# Altium schematic symbol library mcu_stm32.SchLib: 42 symbols (part 3 of 5)
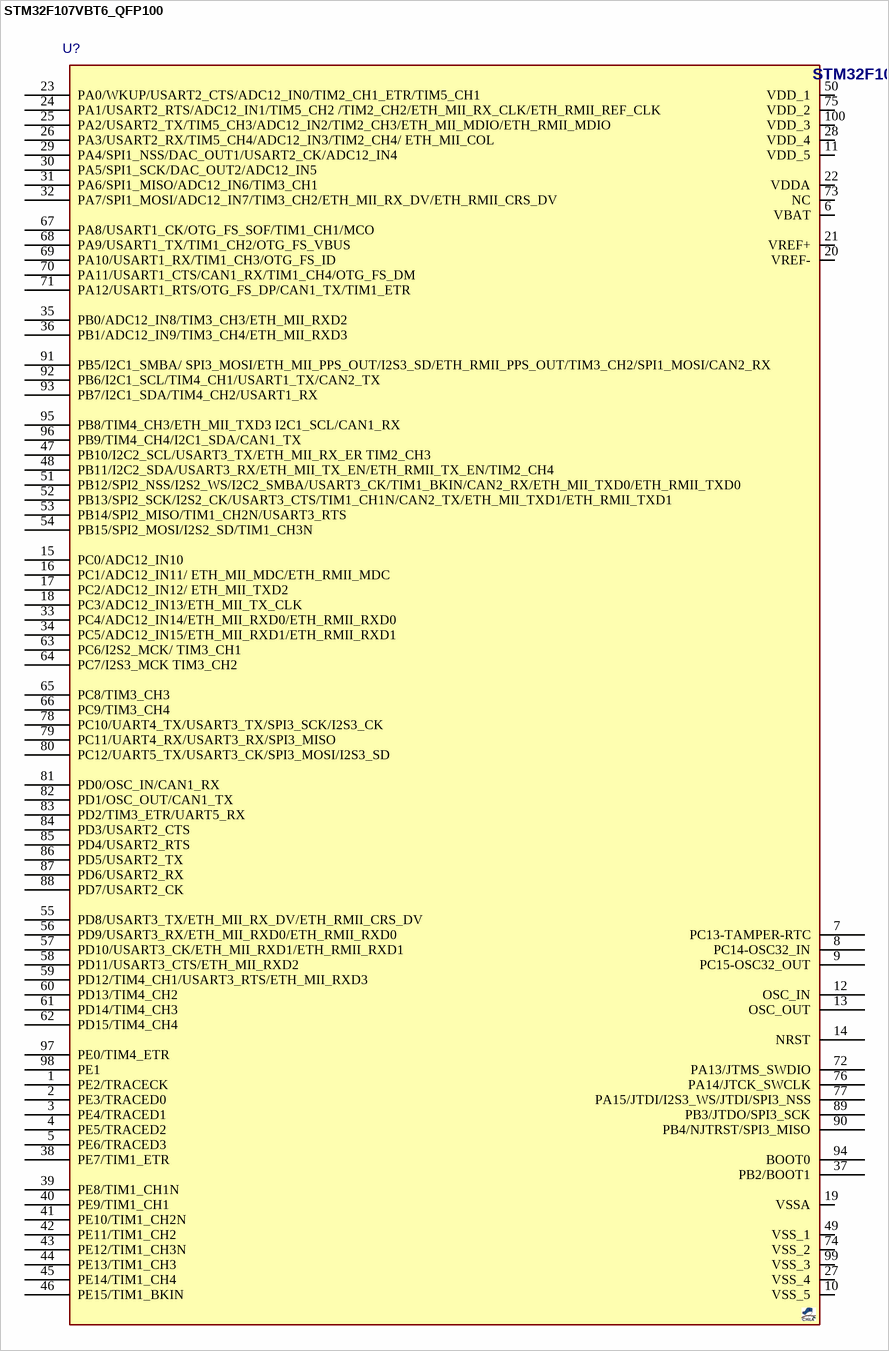
[diagram p31: symbol STM32F107VBT6_QFP100]

## STM32F107VBT6_QFP100
designator U?, comment STM32F107  (value not drawn)
MCU, STM32 ARM 32-bit, Cortex M3, 256KB FLASH, 64KB SRAM; DESC: USB OTG, ETHERNET, 2ADC, DAC, CAN, I2C, SPI, UART; MANF: ST; MANF_P#: STM32F107VBT6; PARAM2: 2~3.6VCC, 72MHz, 2X12Bit ADC, 2X12Bit DAC; PARAM: 256KB FLASH, 64KB SRAM, -40~85oC; PRICE: 9$; VALUE: STM32F107; PACKAGE: QFP-100
footprint QFG50_100 (LQFP100, PQFP100, A100 (Cypress), TQ100/VQ100 (Xilinx), 14.0x14.0mm, Pitch 0.5mm, HT100, HTG100)
pins: 1 PE2/TRACECK, 2 PE3/TRACED0, 3 PE4/TRACED1, 4 PE5/TRACED2, 5 PE6/TRACED3, 6 VBAT, 7 PC13-TAMPER-RTC, 8 PC14-OSC32_IN, 9 PC15-OSC32_OUT, 10 VSS_5, 11 VDD_5, 12 OSC_IN, 13 OSC_OUT, 14 NRST, 15 PC0/ADC12_IN10, 16 PC1/ADC12_IN11/ ETH_MII_MDC/ETH_RMII_MDC, 17 PC2/ADC12_IN12/ ETH_MII_TXD2, 18 PC3/ADC12_IN13/ETH_MII_TX_CLK, 19 VSSA, 20 VREF-, 21 VREF+, 22 VDDA, 23 PA0/WKUP/USART2_CTS/ADC12_IN0/TIM2_CH1_ETR/TIM5_CH1, 24 PA1/USART2_RTS/ADC12_IN1/TIM5_CH2 /TIM2_CH2/ETH_MII_RX_CLK/ETH_RMII_REF_CLK, 25 PA2/USART2_TX/TIM5_CH3/ADC12_IN2/TIM2_CH3/ETH_MII_MDIO/ETH_RMII_MDIO, 26 PA3/USART2_RX/TIM5_CH4/ADC12_IN3/TIM2_CH4/ ETH_MII_COL, 27 VSS_4, 28 VDD_4, 29 PA4/SPI1_NSS/DAC_OUT1/USART2_CK/ADC12_IN4 , 30 PA5/SPI1_SCK/DAC_OUT2/ADC12_IN5, 31 PA6/SPI1_MISO/ADC12_IN6/TIM3_CH1, 32 PA7/SPI1_MOSI/ADC12_IN7/TIM3_CH2/ETH_MII_RX_DV/ETH_RMII_CRS_DV, 33 PC4/ADC12_IN14/ETH_MII_RXD0/ETH_RMII_RXD0, 34 PC5/ADC12_IN15/ETH_MII_RXD1/ETH_RMII_RXD1, 35 PB0/ADC12_IN8/TIM3_CH3/ETH_MII_RXD2, 36 PB1/ADC12_IN9/TIM3_CH4/ETH_MII_RXD3, 37 PB2/BOOT1, 38 PE7/TIM1_ETR, 39 PE8/TIM1_CH1N, 40 PE9/TIM1_CH1, 41 PE10/TIM1_CH2N, 42 PE11/TIM1_CH2, 43 PE12/TIM1_CH3N, 44 PE13/TIM1_CH3, 45 PE14/TIM1_CH4, 46 PE15/TIM1_BKIN, 47 PB10/I2C2_SCL/USART3_TX/ETH_MII_RX_ER TIM2_CH3, 48 PB11/I2C2_SDA/USART3_RX/ETH_MII_TX_EN/ETH_RMII_TX_EN/TIM2_CH4, 49 VSS_1, 50 VDD_1, 51 PB12/SPI2_NSS/I2S2_WS/I2C2_SMBA/USART3_CK/TIM1_BKIN/CAN2_RX/ETH_MII_TXD0/ETH_RMII_TXD0, 52 PB13/SPI2_SCK/I2S2_CK/USART3_CTS/TIM1_CH1N/CAN2_TX/ETH_MII_TXD1/ETH_RMII_TXD1, 53 PB14/SPI2_MISO/TIM1_CH2N/USART3_RTS, 54 PB15/SPI2_MOSI/I2S2_SD/TIM1_CH3N, 55 PD8/USART3_TX/ETH_MII_RX_DV/ETH_RMII_CRS_DV, 56 PD9/USART3_RX/ETH_MII_RXD0/ETH_RMII_RXD0, 57 PD10/USART3_CK/ETH_MII_RXD1/ETH_RMII_RXD1, 58 PD11/USART3_CTS/ETH_MII_RXD2, 59 PD12/TIM4_CH1/USART3_RTS/ETH_MII_RXD3, 60 PD13/TIM4_CH2, 61 PD14/TIM4_CH3, 62 PD15/TIM4_CH4, 63 PC6/I2S2_MCK/ TIM3_CH1, 64 PC7/I2S3_MCK TIM3_CH2, 65 PC8/TIM3_CH3, 66 PC9/TIM3_CH4, 67 PA8/USART1_CK/OTG_FS_SOF/TIM1_CH1/MCO, 68 PA9/USART1_TX/TIM1_CH2/OTG_FS_VBUS, 69 PA10/USART1_RX/TIM1_CH3/OTG_FS_ID, 70 PA11/USART1_CTS/CAN1_RX/TIM1_CH4/OTG_FS_DM, 71 PA12/USART1_RTS/OTG_FS_DP/CAN1_TX/TIM1_ETR, 72 PA13/JTMS_SWDIO, 73 NC, 74 VSS_2, 75 VDD_2, 76 PA14/JTCK_SWCLK, 77 PA15/JTDI/I2S3_WS/JTDI/SPI3_NSS, 78 PC10/UART4_TX/USART3_TX/SPI3_SCK/I2S3_CK, 79 PC11/UART4_RX/USART3_RX/SPI3_MISO, 80 PC12/UART5_TX/USART3_CK/SPI3_MOSI/I2S3_SD, 81 PD0/OSC_IN/CAN1_RX, 82 PD1/OSC_OUT/CAN1_TX, 83 PD2/TIM3_ETR/UART5_RX, 84 PD3/USART2_CTS, 85 PD4/USART2_RTS, 86 PD5/USART2_TX, 87 PD6/USART2_RX, 88 PD7/USART2_CK, 89 PB3/JTDO/SPI3_SCK, 90 PB4/NJTRST/SPI3_MISO, 91 PB5/I2C1_SMBA/ SPI3_MOSI/ETH_MII_PPS_OUT/I2S3_SD/ETH_RMII_PPS_OUT/TIM3_CH2/SPI1_MOSI/CAN2_RX, 92 PB6/I2C1_SCL/TIM4_CH1/USART1_TX/CAN2_TX, 93 PB7/I2C1_SDA/TIM4_CH2/USART1_RX, 94 BOOT0, 95 PB8/TIM4_CH3/ETH_MII_TXD3 I2C1_SCL/CAN1_RX, 96 PB9/TIM4_CH4/I2C1_SDA/CAN1_TX, 97 PE0/TIM4_ETR, 98 PE1, 99 VSS_3, 100 VDD_3

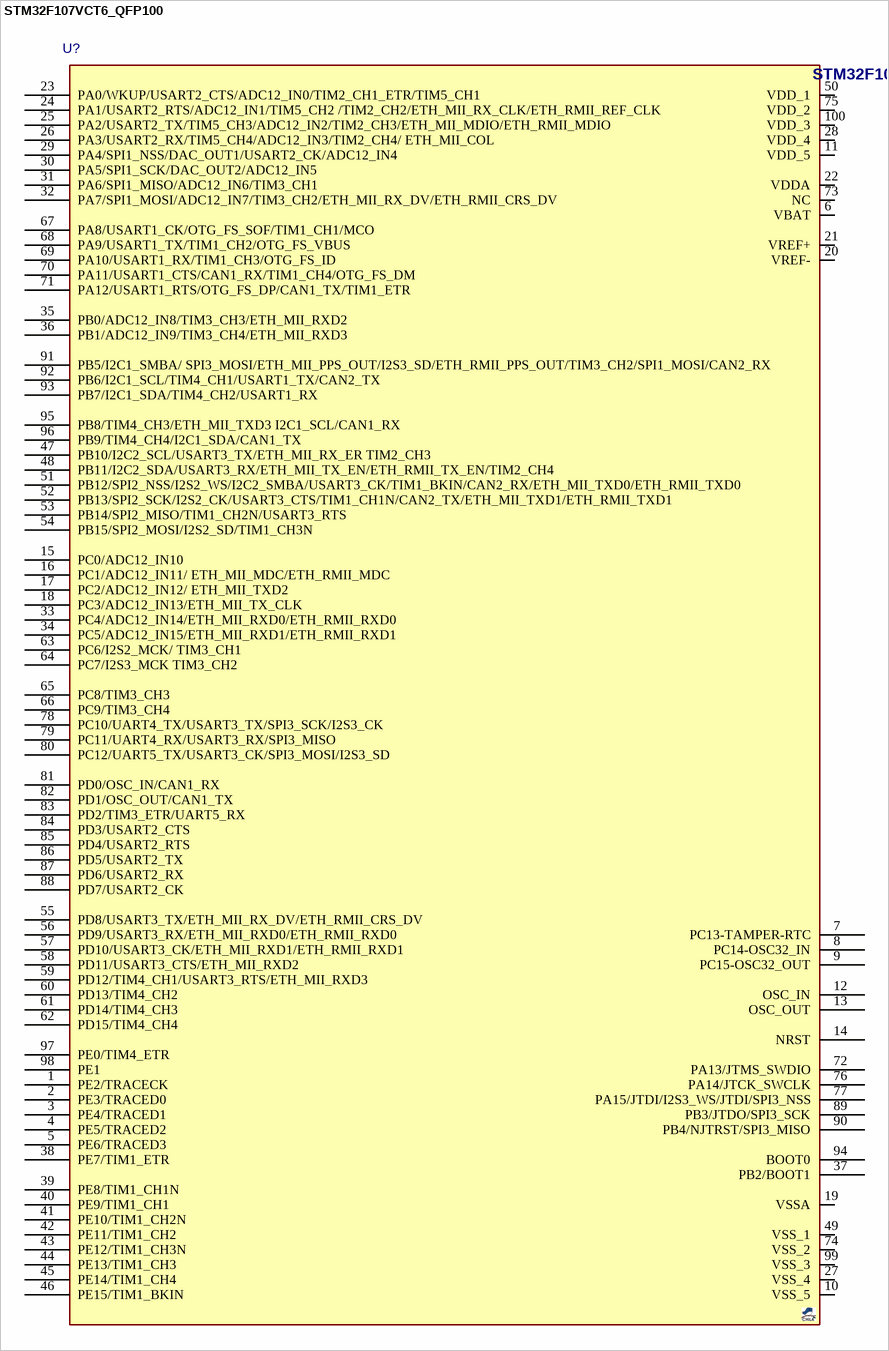
[diagram p16: symbol STM32F107VCT6_QFP100]

## STM32F107VCT6_QFP100
designator U?, comment STM32F107  (value not drawn)
MCU, STM32 ARM 32-bit, Cortex M3, 256KB FLASH, 64KB SRAM; DESC: USB OTG, ETHERNET, 2ADC, DAC, CAN, I2C, SPI, UART; MANF: ST; MANF_P#: STM32F107VCT6; PARAM2: 2~3.6VCC, 72MHz, 2X12Bit ADC, 2X12Bit DAC; PARAM: 256KB FLASH, 64KB SRAM, -40~85oC; PRICE: 10$; VALUE: STM32F107; PACKAGE: QFP-100
footprint QFG50_100 (LQFP100, PQFP100, A100 (Cypress), TQ100/VQ100 (Xilinx), 14.0x14.0mm, Pitch 0.5mm, HT100, HTG100)
pins: 1 PE2/TRACECK, 2 PE3/TRACED0, 3 PE4/TRACED1, 4 PE5/TRACED2, 5 PE6/TRACED3, 6 VBAT, 7 PC13-TAMPER-RTC, 8 PC14-OSC32_IN, 9 PC15-OSC32_OUT, 10 VSS_5, 11 VDD_5, 12 OSC_IN, 13 OSC_OUT, 14 NRST, 15 PC0/ADC12_IN10, 16 PC1/ADC12_IN11/ ETH_MII_MDC/ETH_RMII_MDC, 17 PC2/ADC12_IN12/ ETH_MII_TXD2, 18 PC3/ADC12_IN13/ETH_MII_TX_CLK, 19 VSSA, 20 VREF-, 21 VREF+, 22 VDDA, 23 PA0/WKUP/USART2_CTS/ADC12_IN0/TIM2_CH1_ETR/TIM5_CH1, 24 PA1/USART2_RTS/ADC12_IN1/TIM5_CH2 /TIM2_CH2/ETH_MII_RX_CLK/ETH_RMII_REF_CLK, 25 PA2/USART2_TX/TIM5_CH3/ADC12_IN2/TIM2_CH3/ETH_MII_MDIO/ETH_RMII_MDIO, 26 PA3/USART2_RX/TIM5_CH4/ADC12_IN3/TIM2_CH4/ ETH_MII_COL, 27 VSS_4, 28 VDD_4, 29 PA4/SPI1_NSS/DAC_OUT1/USART2_CK/ADC12_IN4 , 30 PA5/SPI1_SCK/DAC_OUT2/ADC12_IN5, 31 PA6/SPI1_MISO/ADC12_IN6/TIM3_CH1, 32 PA7/SPI1_MOSI/ADC12_IN7/TIM3_CH2/ETH_MII_RX_DV/ETH_RMII_CRS_DV, 33 PC4/ADC12_IN14/ETH_MII_RXD0/ETH_RMII_RXD0, 34 PC5/ADC12_IN15/ETH_MII_RXD1/ETH_RMII_RXD1, 35 PB0/ADC12_IN8/TIM3_CH3/ETH_MII_RXD2, 36 PB1/ADC12_IN9/TIM3_CH4/ETH_MII_RXD3, 37 PB2/BOOT1, 38 PE7/TIM1_ETR, 39 PE8/TIM1_CH1N, 40 PE9/TIM1_CH1, 41 PE10/TIM1_CH2N, 42 PE11/TIM1_CH2, 43 PE12/TIM1_CH3N, 44 PE13/TIM1_CH3, 45 PE14/TIM1_CH4, 46 PE15/TIM1_BKIN, 47 PB10/I2C2_SCL/USART3_TX/ETH_MII_RX_ER TIM2_CH3, 48 PB11/I2C2_SDA/USART3_RX/ETH_MII_TX_EN/ETH_RMII_TX_EN/TIM2_CH4, 49 VSS_1, 50 VDD_1, 51 PB12/SPI2_NSS/I2S2_WS/I2C2_SMBA/USART3_CK/TIM1_BKIN/CAN2_RX/ETH_MII_TXD0/ETH_RMII_TXD0, 52 PB13/SPI2_SCK/I2S2_CK/USART3_CTS/TIM1_CH1N/CAN2_TX/ETH_MII_TXD1/ETH_RMII_TXD1, 53 PB14/SPI2_MISO/TIM1_CH2N/USART3_RTS, 54 PB15/SPI2_MOSI/I2S2_SD/TIM1_CH3N, 55 PD8/USART3_TX/ETH_MII_RX_DV/ETH_RMII_CRS_DV, 56 PD9/USART3_RX/ETH_MII_RXD0/ETH_RMII_RXD0, 57 PD10/USART3_CK/ETH_MII_RXD1/ETH_RMII_RXD1, 58 PD11/USART3_CTS/ETH_MII_RXD2, 59 PD12/TIM4_CH1/USART3_RTS/ETH_MII_RXD3, 60 PD13/TIM4_CH2, 61 PD14/TIM4_CH3, 62 PD15/TIM4_CH4, 63 PC6/I2S2_MCK/ TIM3_CH1, 64 PC7/I2S3_MCK TIM3_CH2, 65 PC8/TIM3_CH3, 66 PC9/TIM3_CH4, 67 PA8/USART1_CK/OTG_FS_SOF/TIM1_CH1/MCO, 68 PA9/USART1_TX/TIM1_CH2/OTG_FS_VBUS, 69 PA10/USART1_RX/TIM1_CH3/OTG_FS_ID, 70 PA11/USART1_CTS/CAN1_RX/TIM1_CH4/OTG_FS_DM, 71 PA12/USART1_RTS/OTG_FS_DP/CAN1_TX/TIM1_ETR, 72 PA13/JTMS_SWDIO, 73 NC, 74 VSS_2, 75 VDD_2, 76 PA14/JTCK_SWCLK, 77 PA15/JTDI/I2S3_WS/JTDI/SPI3_NSS, 78 PC10/UART4_TX/USART3_TX/SPI3_SCK/I2S3_CK, 79 PC11/UART4_RX/USART3_RX/SPI3_MISO, 80 PC12/UART5_TX/USART3_CK/SPI3_MOSI/I2S3_SD, 81 PD0/OSC_IN/CAN1_RX, 82 PD1/OSC_OUT/CAN1_TX, 83 PD2/TIM3_ETR/UART5_RX, 84 PD3/USART2_CTS, 85 PD4/USART2_RTS, 86 PD5/USART2_TX, 87 PD6/USART2_RX, 88 PD7/USART2_CK, 89 PB3/JTDO/SPI3_SCK, 90 PB4/NJTRST/SPI3_MISO, 91 PB5/I2C1_SMBA/ SPI3_MOSI/ETH_MII_PPS_OUT/I2S3_SD/ETH_RMII_PPS_OUT/TIM3_CH2/SPI1_MOSI/CAN2_RX, 92 PB6/I2C1_SCL/TIM4_CH1/USART1_TX/CAN2_TX, 93 PB7/I2C1_SDA/TIM4_CH2/USART1_RX, 94 BOOT0, 95 PB8/TIM4_CH3/ETH_MII_TXD3 I2C1_SCL/CAN1_RX, 96 PB9/TIM4_CH4/I2C1_SDA/CAN1_TX, 97 PE0/TIM4_ETR, 98 PE1, 99 VSS_3, 100 VDD_3

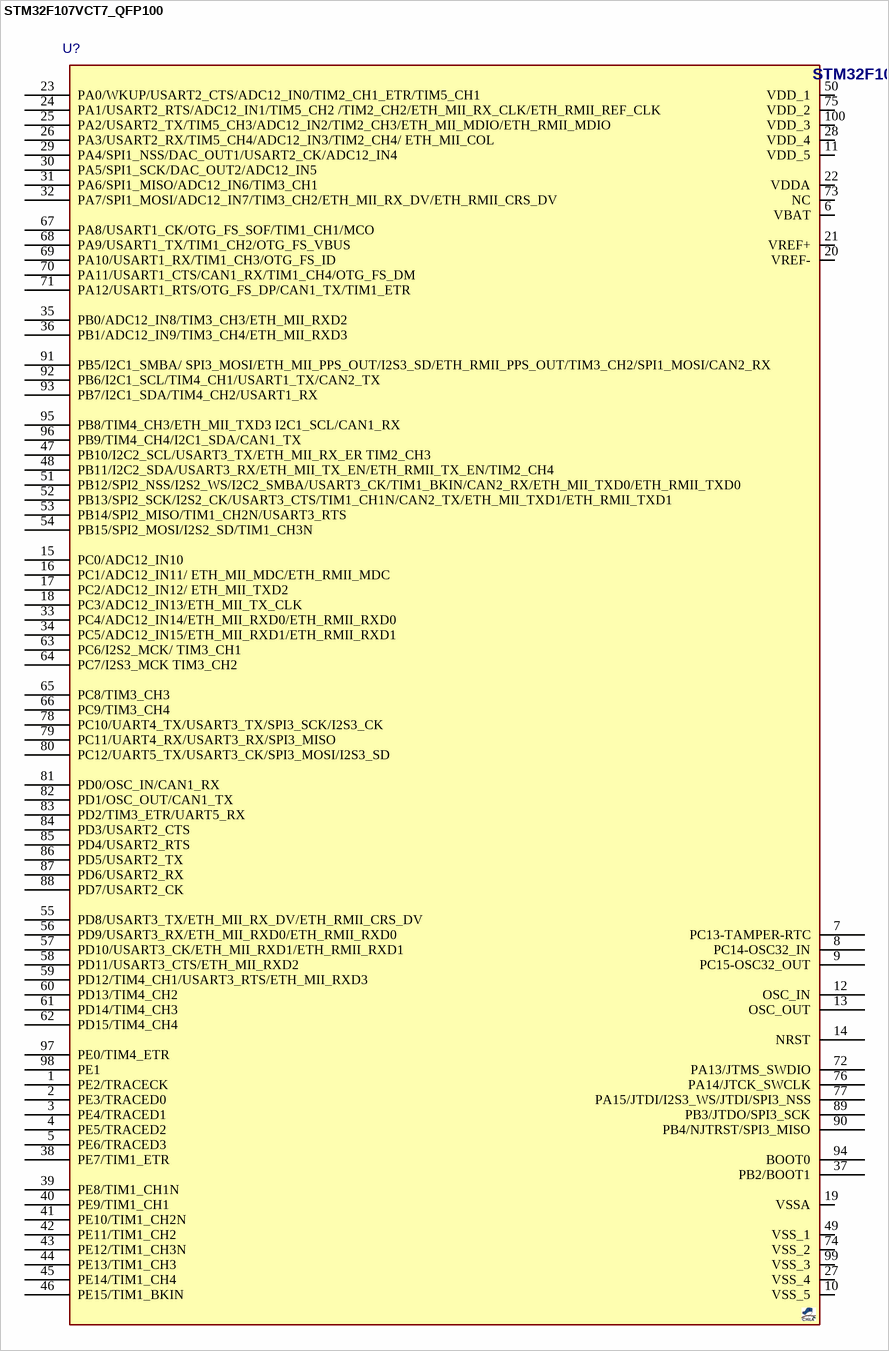
[diagram p17: symbol STM32F107VCT7_QFP100]

## STM32F107VCT7_QFP100
designator U?, comment STM32F107  (value not drawn)
MCU, STM32 ARM 32-bit, Cortex M3, 256KB FLASH, 64KB SRAM; DESC: USB OTG, ETHERNET, 2ADC, DAC, CAN, I2C, SPI, UART; MANF: ST; MANF_P#: STM32F107VCT7; PARAM2: 2~3.6VCC, 72MHz, 2X12Bit ADC, 2X12Bit DAC; PARAM: 256KB FLASH, 64KB SRAM, -40~105oC; PRICE: 9$; VALUE: STM32F107; PACKAGE: QFP-100
footprint QFG50_100 (LQFP100, PQFP100, A100 (Cypress), TQ100/VQ100 (Xilinx), 14.0x14.0mm, Pitch 0.5mm, HT100, HTG100)
pins: 1 PE2/TRACECK, 2 PE3/TRACED0, 3 PE4/TRACED1, 4 PE5/TRACED2, 5 PE6/TRACED3, 6 VBAT, 7 PC13-TAMPER-RTC, 8 PC14-OSC32_IN, 9 PC15-OSC32_OUT, 10 VSS_5, 11 VDD_5, 12 OSC_IN, 13 OSC_OUT, 14 NRST, 15 PC0/ADC12_IN10, 16 PC1/ADC12_IN11/ ETH_MII_MDC/ETH_RMII_MDC, 17 PC2/ADC12_IN12/ ETH_MII_TXD2, 18 PC3/ADC12_IN13/ETH_MII_TX_CLK, 19 VSSA, 20 VREF-, 21 VREF+, 22 VDDA, 23 PA0/WKUP/USART2_CTS/ADC12_IN0/TIM2_CH1_ETR/TIM5_CH1, 24 PA1/USART2_RTS/ADC12_IN1/TIM5_CH2 /TIM2_CH2/ETH_MII_RX_CLK/ETH_RMII_REF_CLK, 25 PA2/USART2_TX/TIM5_CH3/ADC12_IN2/TIM2_CH3/ETH_MII_MDIO/ETH_RMII_MDIO, 26 PA3/USART2_RX/TIM5_CH4/ADC12_IN3/TIM2_CH4/ ETH_MII_COL, 27 VSS_4, 28 VDD_4, 29 PA4/SPI1_NSS/DAC_OUT1/USART2_CK/ADC12_IN4 , 30 PA5/SPI1_SCK/DAC_OUT2/ADC12_IN5, 31 PA6/SPI1_MISO/ADC12_IN6/TIM3_CH1, 32 PA7/SPI1_MOSI/ADC12_IN7/TIM3_CH2/ETH_MII_RX_DV/ETH_RMII_CRS_DV, 33 PC4/ADC12_IN14/ETH_MII_RXD0/ETH_RMII_RXD0, 34 PC5/ADC12_IN15/ETH_MII_RXD1/ETH_RMII_RXD1, 35 PB0/ADC12_IN8/TIM3_CH3/ETH_MII_RXD2, 36 PB1/ADC12_IN9/TIM3_CH4/ETH_MII_RXD3, 37 PB2/BOOT1, 38 PE7/TIM1_ETR, 39 PE8/TIM1_CH1N, 40 PE9/TIM1_CH1, 41 PE10/TIM1_CH2N, 42 PE11/TIM1_CH2, 43 PE12/TIM1_CH3N, 44 PE13/TIM1_CH3, 45 PE14/TIM1_CH4, 46 PE15/TIM1_BKIN, 47 PB10/I2C2_SCL/USART3_TX/ETH_MII_RX_ER TIM2_CH3, 48 PB11/I2C2_SDA/USART3_RX/ETH_MII_TX_EN/ETH_RMII_TX_EN/TIM2_CH4, 49 VSS_1, 50 VDD_1, 51 PB12/SPI2_NSS/I2S2_WS/I2C2_SMBA/USART3_CK/TIM1_BKIN/CAN2_RX/ETH_MII_TXD0/ETH_RMII_TXD0, 52 PB13/SPI2_SCK/I2S2_CK/USART3_CTS/TIM1_CH1N/CAN2_TX/ETH_MII_TXD1/ETH_RMII_TXD1, 53 PB14/SPI2_MISO/TIM1_CH2N/USART3_RTS, 54 PB15/SPI2_MOSI/I2S2_SD/TIM1_CH3N, 55 PD8/USART3_TX/ETH_MII_RX_DV/ETH_RMII_CRS_DV, 56 PD9/USART3_RX/ETH_MII_RXD0/ETH_RMII_RXD0, 57 PD10/USART3_CK/ETH_MII_RXD1/ETH_RMII_RXD1, 58 PD11/USART3_CTS/ETH_MII_RXD2, 59 PD12/TIM4_CH1/USART3_RTS/ETH_MII_RXD3, 60 PD13/TIM4_CH2, 61 PD14/TIM4_CH3, 62 PD15/TIM4_CH4, 63 PC6/I2S2_MCK/ TIM3_CH1, 64 PC7/I2S3_MCK TIM3_CH2, 65 PC8/TIM3_CH3, 66 PC9/TIM3_CH4, 67 PA8/USART1_CK/OTG_FS_SOF/TIM1_CH1/MCO, 68 PA9/USART1_TX/TIM1_CH2/OTG_FS_VBUS, 69 PA10/USART1_RX/TIM1_CH3/OTG_FS_ID, 70 PA11/USART1_CTS/CAN1_RX/TIM1_CH4/OTG_FS_DM, 71 PA12/USART1_RTS/OTG_FS_DP/CAN1_TX/TIM1_ETR, 72 PA13/JTMS_SWDIO, 73 NC, 74 VSS_2, 75 VDD_2, 76 PA14/JTCK_SWCLK, 77 PA15/JTDI/I2S3_WS/JTDI/SPI3_NSS, 78 PC10/UART4_TX/USART3_TX/SPI3_SCK/I2S3_CK, 79 PC11/UART4_RX/USART3_RX/SPI3_MISO, 80 PC12/UART5_TX/USART3_CK/SPI3_MOSI/I2S3_SD, 81 PD0/OSC_IN/CAN1_RX, 82 PD1/OSC_OUT/CAN1_TX, 83 PD2/TIM3_ETR/UART5_RX, 84 PD3/USART2_CTS, 85 PD4/USART2_RTS, 86 PD5/USART2_TX, 87 PD6/USART2_RX, 88 PD7/USART2_CK, 89 PB3/JTDO/SPI3_SCK, 90 PB4/NJTRST/SPI3_MISO, 91 PB5/I2C1_SMBA/ SPI3_MOSI/ETH_MII_PPS_OUT/I2S3_SD/ETH_RMII_PPS_OUT/TIM3_CH2/SPI1_MOSI/CAN2_RX, 92 PB6/I2C1_SCL/TIM4_CH1/USART1_TX/CAN2_TX, 93 PB7/I2C1_SDA/TIM4_CH2/USART1_RX, 94 BOOT0, 95 PB8/TIM4_CH3/ETH_MII_TXD3 I2C1_SCL/CAN1_RX, 96 PB9/TIM4_CH4/I2C1_SDA/CAN1_TX, 97 PE0/TIM4_ETR, 98 PE1, 99 VSS_3, 100 VDD_3

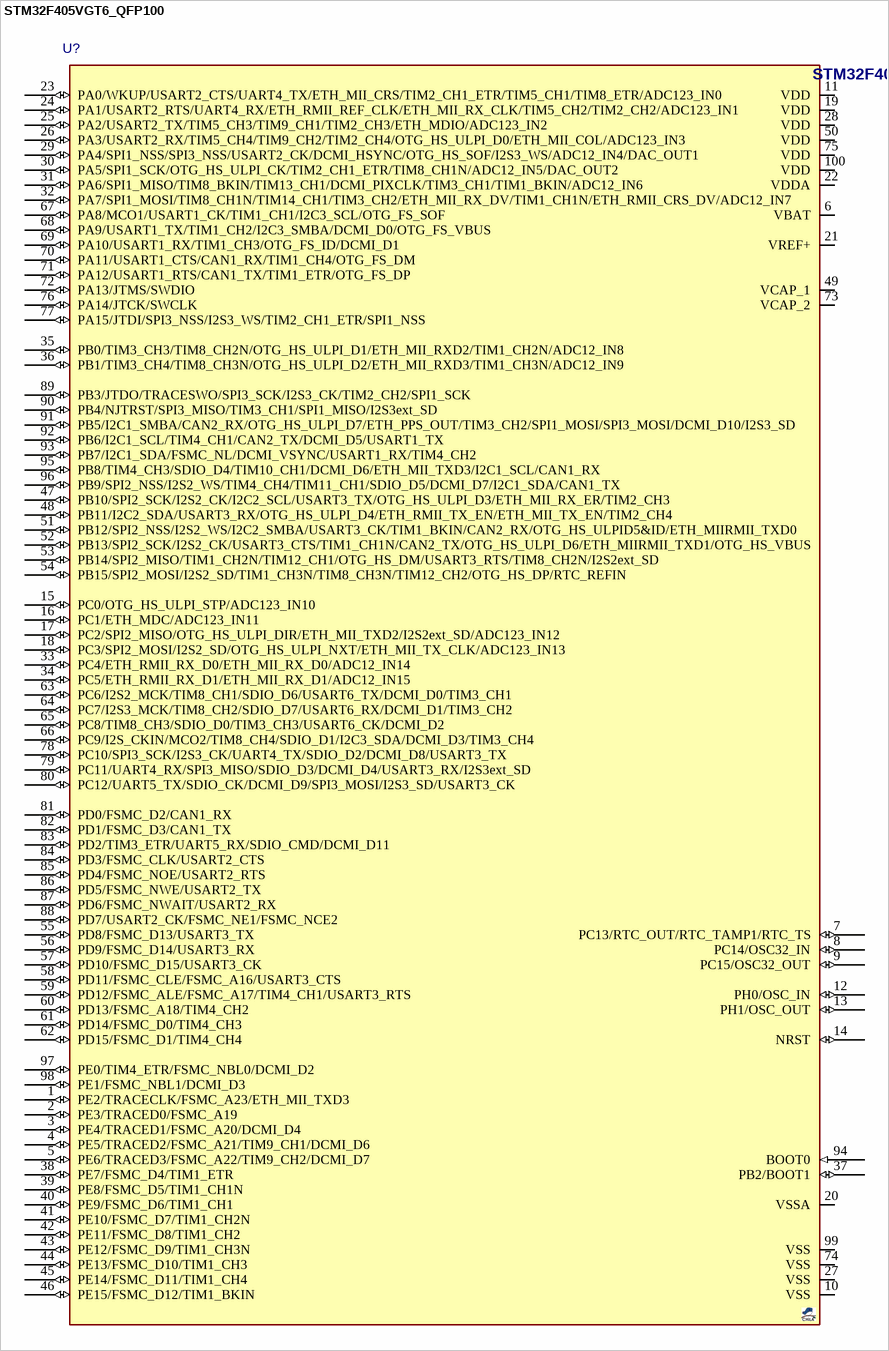
[diagram p18: symbol STM32F405VGT6_QFP100]

## STM32F405VGT6_QFP100
designator U?, comment STM32F405  (value not drawn)
MCU, STM32 ARM 32-bit, Cortex M4, 1MB FLASH, 192kB SRAM; DESC: USB OTG, ETHERNET, 3ADC, 2DAC, 2CAN, 3I2C, 3SPI, 4UART, Camera; MANF: ST; MANF_P#: STM32F405VGT6; PARAM2: 1.8~3.6VCC, 168MHz, 3x12Bit ADC, 2x12Bit DAC; PARAM: 1MB FLASH, 192kB SRAM, -40~85oC; PRICE: 9$; VALUE: STM32F405; PACKAGE: QFP-100
footprint QFG50_100 (LQFP100, PQFP100, A100 (Cypress), TQ100/VQ100 (Xilinx), 14.0x14.0mm, Pitch 0.5mm, HT100, HTG100)
pins: 1 PE2/TRACECLK/FSMC_A23/ETH_MII_TXD3 (io), 2 PE3/TRACED0/FSMC_A19 (io), 3 PE4/TRACED1/FSMC_A20/DCMI_D4 (io), 4 PE5/TRACED2/FSMC_A21/TIM9_CH1/DCMI_D6 (io), 5 PE6/TRACED3/FSMC_A22/TIM9_CH2/DCMI_D7 (io), 6 VBAT (power), 7 PC13/RTC_OUT/RTC_TAMP1/RTC_TS (io), 8 PC14/OSC32_IN (io), 9 PC15/OSC32_OUT (io), 10 VSS (power), 11 VDD (power), 12 PH0/OSC_IN (io), 13 PH1/OSC_OUT (io), 14 NRST (io), 15 PC0/OTG_HS_ULPI_STP/ADC123_IN10 (io), 16 PC1/ETH_MDC/ADC123_IN11 (io), 17 PC2/SPI2_MISO/OTG_HS_ULPI_DIR/ETH_MII_TXD2/I2S2ext_SD/ADC123_IN12 (io), 18 PC3/SPI2_MOSI/I2S2_SD/OTG_HS_ULPI_NXT/ETH_MII_TX_CLK/ADC123_IN13 (io), 19 VDD (power), 20 VSSA (power), 21 VREF+ (power), 22 VDDA (power), 23 PA0/WKUP/USART2_CTS/UART4_TX/ETH_MII_CRS/TIM2_CH1_ETR/TIM5_CH1/TIM8_ETR/ADC123_IN0 (io), 24 PA1/USART2_RTS/UART4_RX/ETH_RMII_REF_CLK/ETH_MII_RX_CLK/TIM5_CH2/TIM2_CH2/ADC123_IN1 (io), 25 PA2/USART2_TX/TIM5_CH3/TIM9_CH1/TIM2_CH3/ETH_MDIO/ADC123_IN2 (io), 26 PA3/USART2_RX/TIM5_CH4/TIM9_CH2/TIM2_CH4/OTG_HS_ULPI_D0/ETH_MII_COL/ADC123_IN3 (io), 27 VSS (power), 28 VDD (power), 29 PA4/SPI1_NSS/SPI3_NSS/USART2_CK/DCMI_HSYNC/OTG_HS_SOF/I2S3_WS/ADC12_IN4/DAC_OUT1 (io), 30 PA5/SPI1_SCK/OTG_HS_ULPI_CK/TIM2_CH1_ETR/TIM8_CH1N/ADC12_IN5/DAC_OUT2 (io), 31 PA6/SPI1_MISO/TIM8_BKIN/TIM13_CH1/DCMI_PIXCLK/TIM3_CH1/TIM1_BKIN/ADC12_IN6 (io), 32 PA7/SPI1_MOSI/TIM8_CH1N/TIM14_CH1/TIM3_CH2/ETH_MII_RX_DV/TIM1_CH1N/ETH_RMII_CRS_DV/ADC12_IN7 (io), 33 PC4/ETH_RMII_RX_D0/ETH_MII_RX_D0/ADC12_IN14 (io), 34 PC5/ETH_RMII_RX_D1/ETH_MII_RX_D1/ADC12_IN15 (io), 35 PB0/TIM3_CH3/TIM8_CH2N/OTG_HS_ULPI_D1/ETH_MII_RXD2/TIM1_CH2N/ADC12_IN8 (io), 36 PB1/TIM3_CH4/TIM8_CH3N/OTG_HS_ULPI_D2/ETH_MII_RXD3/TIM1_CH3N/ADC12_IN9 (io), 37 PB2/BOOT1 (io), 38 PE7/FSMC_D4/TIM1_ETR (io), 39 PE8/FSMC_D5/TIM1_CH1N (io), 40 PE9/FSMC_D6/TIM1_CH1 (io), 41 PE10/FSMC_D7/TIM1_CH2N (io), 42 PE11/FSMC_D8/TIM1_CH2 (io), 43 PE12/FSMC_D9/TIM1_CH3N (io), 44 PE13/FSMC_D10/TIM1_CH3 (io), 45 PE14/FSMC_D11/TIM1_CH4 (io), 46 PE15/FSMC_D12/TIM1_BKIN (io), 47 PB10/SPI2_SCK/I2S2_CK/I2C2_SCL/USART3_TX/OTG_HS_ULPI_D3/ETH_MII_RX_ER/TIM2_CH3 (io), 48 PB11/I2C2_SDA/USART3_RX/OTG_HS_ULPI_D4/ETH_RMII_TX_EN/ETH_MII_TX_EN/TIM2_CH4 (io), 49 VCAP_1 (power), 50 VDD (power), 51 PB12/SPI2_NSS/I2S2_WS/I2C2_SMBA/USART3_CK/TIM1_BKIN/CAN2_RX/OTG_HS_ULPID5&ID/ETH_MIIRMII_TXD0 (io), 52 PB13/SPI2_SCK/I2S2_CK/USART3_CTS/TIM1_CH1N/CAN2_TX/OTG_HS_ULPI_D6/ETH_MIIRMII_TXD1/OTG_HS_VBUS (io), 53 PB14/SPI2_MISO/TIM1_CH2N/TIM12_CH1/OTG_HS_DM/USART3_RTS/TIM8_CH2N/I2S2ext_SD (io), 54 PB15/SPI2_MOSI/I2S2_SD/TIM1_CH3N/TIM8_CH3N/TIM12_CH2/OTG_HS_DP/RTC_REFIN (io), 55 PD8/FSMC_D13/USART3_TX (io), 56 PD9/FSMC_D14/USART3_RX (io), 57 PD10/FSMC_D15/USART3_CK (io), 58 PD11/FSMC_CLE/FSMC_A16/USART3_CTS (io), 59 PD12/FSMC_ALE/FSMC_A17/TIM4_CH1/USART3_RTS (io), 60 PD13/FSMC_A18/TIM4_CH2 (io), 61 PD14/FSMC_D0/TIM4_CH3 (io), 62 PD15/FSMC_D1/TIM4_CH4 (io), 63 PC6/I2S2_MCK/TIM8_CH1/SDIO_D6/USART6_TX/DCMI_D0/TIM3_CH1 (io), 64 PC7/I2S3_MCK/TIM8_CH2/SDIO_D7/USART6_RX/DCMI_D1/TIM3_CH2 (io), 65 PC8/TIM8_CH3/SDIO_D0/TIM3_CH3/USART6_CK/DCMI_D2 (io), 66 PC9/I2S_CKIN/MCO2/TIM8_CH4/SDIO_D1/I2C3_SDA/DCMI_D3/TIM3_CH4 (io), 67 PA8/MCO1/USART1_CK/TIM1_CH1/I2C3_SCL/OTG_FS_SOF (io), 68 PA9/USART1_TX/TIM1_CH2/I2C3_SMBA/DCMI_D0/OTG_FS_VBUS (io), 69 PA10/USART1_RX/TIM1_CH3/OTG_FS_ID/DCMI_D1 (io), 70 PA11/USART1_CTS/CAN1_RX/TIM1_CH4/OTG_FS_DM (io), 71 PA12/USART1_RTS/CAN1_TX/TIM1_ETR/OTG_FS_DP (io), 72 PA13/JTMS/SWDIO (io), 73 VCAP_2 (power), 74 VSS (power), 75 VDD (power), 76 PA14/JTCK/SWCLK (io), 77 PA15/JTDI/SPI3_NSS/I2S3_WS/TIM2_CH1_ETR/SPI1_NSS (io), 78 PC10/SPI3_SCK/I2S3_CK/UART4_TX/SDIO_D2/DCMI_D8/USART3_TX (io), 79 PC11/UART4_RX/SPI3_MISO/SDIO_D3/DCMI_D4/USART3_RX/I2S3ext_SD (io), 80 PC12/UART5_TX/SDIO_CK/DCMI_D9/SPI3_MOSI/I2S3_SD/USART3_CK (io), 81 PD0/FSMC_D2/CAN1_RX (io), 82 PD1/FSMC_D3/CAN1_TX (io), 83 PD2/TIM3_ETR/UART5_RX/SDIO_CMD/DCMI_D11 (io), 84 PD3/FSMC_CLK/USART2_CTS (io), 85 PD4/FSMC_NOE/USART2_RTS (io), 86 PD5/FSMC_NWE/USART2_TX (io), 87 PD6/FSMC_NWAIT/USART2_RX (io), 88 PD7/USART2_CK/FSMC_NE1/FSMC_NCE2 (io), 89 PB3/JTDO/TRACESWO/SPI3_SCK/I2S3_CK/TIM2_CH2/SPI1_SCK (io), 90 PB4/NJTRST/SPI3_MISO/TIM3_CH1/SPI1_MISO/I2S3ext_SD (io), 91 PB5/I2C1_SMBA/CAN2_RX/OTG_HS_ULPI_D7/ETH_PPS_OUT/TIM3_CH2/SPI1_MOSI/SPI3_MOSI/DCMI_D10/I2S3_SD (io), 92 PB6/I2C1_SCL/TIM4_CH1/CAN2_TX/DCMI_D5/USART1_TX (io), 93 PB7/I2C1_SDA/FSMC_NL/DCMI_VSYNC/USART1_RX/TIM4_CH2 (io), 94 BOOT0 (in), 95 PB8/TIM4_CH3/SDIO_D4/TIM10_CH1/DCMI_D6/ETH_MII_TXD3/I2C1_SCL/CAN1_RX (io), 96 PB9/SPI2_NSS/I2S2_WS/TIM4_CH4/TIM11_CH1/SDIO_D5/DCMI_D7/I2C1_SDA/CAN1_TX (io), 97 PE0/TIM4_ETR/FSMC_NBL0/DCMI_D2 (io), 98 PE1/FSMC_NBL1/DCMI_D3 (io), 99 VSS (power), 100 VDD (power)

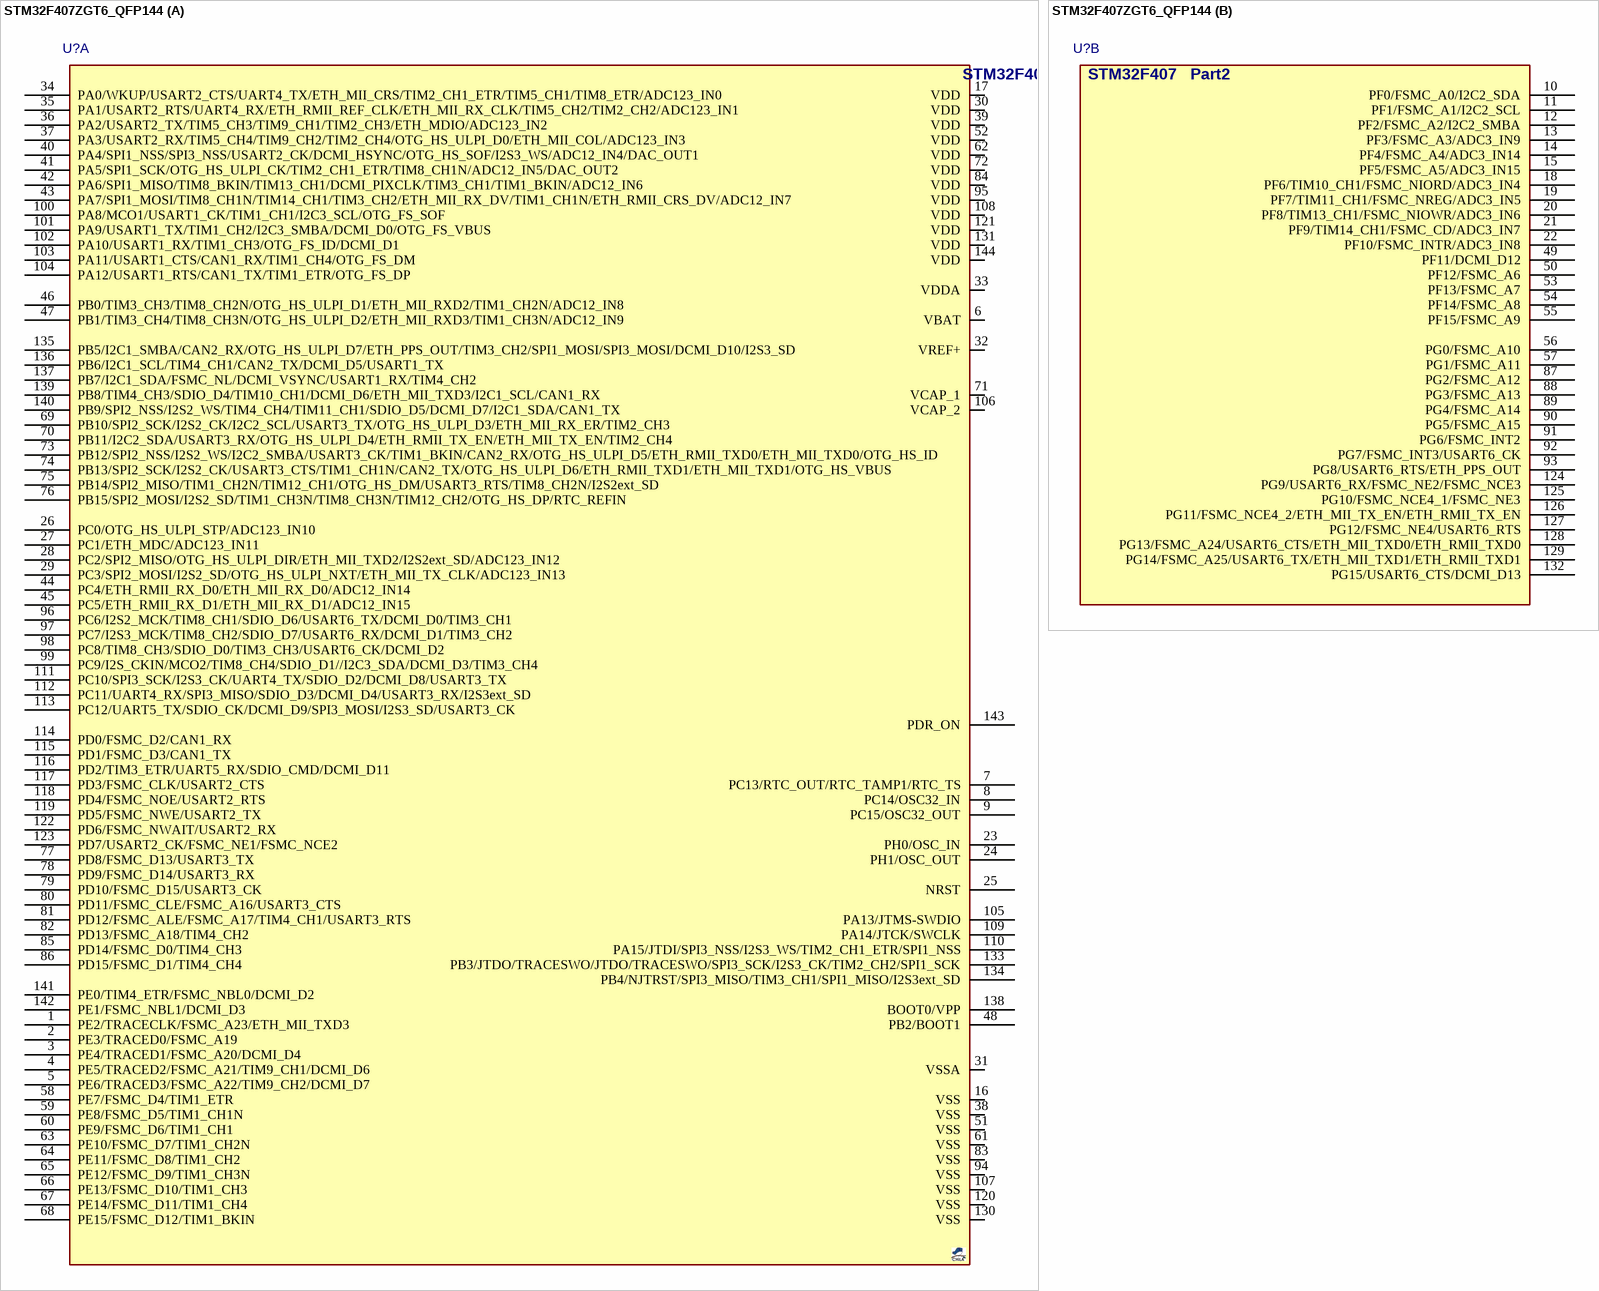
[diagram p19: symbol STM32F407ZGT6_QFP144]

## STM32F407ZGT6_QFP144
designator U?, comment STM32F407  (value not drawn)
MCU, STM32 ARM 32-bit, Cortex M4, 1MB FLASH, 192KB SRAM; DESC: USB_OTG HS/FS, Ethernet, 3 ADCs, DAC, CAN, I2C, SPI, UART, camera; MANF: ST; MANF_P#: STM32F407ZGT6; PARAM2: 1.8~3.6VCC, 168MHz, 3X12Bit 2.4MSPS ADC; PARAM: 1MB FLASH, 192KB SRAM, -40~105oC; PRICE: 13$; VALUE: STM32F407; PACKAGE: QFP-144
footprint QFG50_144 (LQFP144, TQFP144, A144 (Cypress), HT144/TQ144 TQG144 (Xilinx), MS-026, MO-136(JEDEC), LQFP PGE, 20X20mm, Pitch 0.50mm, HT144, HTG144)
part A pins: 1 PE2/TRACECLK/FSMC_A23/ETH_MII_TXD3, 2 PE3/TRACED0/FSMC_A19, 3 PE4/TRACED1/FSMC_A20/DCMI_D4, 4 PE5/TRACED2/FSMC_A21/TIM9_CH1/DCMI_D6, 5 PE6/TRACED3/FSMC_A22/TIM9_CH2/DCMI_D7, 6 VBAT, 7 PC13/RTC_OUT/RTC_TAMP1/RTC_TS, 8 PC14/OSC32_IN, 9 PC15/OSC32_OUT, 16 VSS, 17 VDD, 23 PH0/OSC_IN, 24 PH1/OSC_OUT, 25 NRST, 26 PC0/OTG_HS_ULPI_STP/ADC123_IN10, 27 PC1/ETH_MDC/ADC123_IN11, 28 PC2/SPI2_MISO/OTG_HS_ULPI_DIR/ETH_MII_TXD2/I2S2ext_SD/ADC123_IN12, 29 PC3/SPI2_MOSI/I2S2_SD/OTG_HS_ULPI_NXT/ETH_MII_TX_CLK/ADC123_IN13, 30 VDD, 31 VSSA, 32 VREF+, 33 VDDA, 34 PA0/WKUP/USART2_CTS/UART4_TX/ETH_MII_CRS/TIM2_CH1_ETR/TIM5_CH1/TIM8_ETR/ADC123_IN0, 35 PA1/USART2_RTS/UART4_RX/ETH_RMII_REF_CLK/ETH_MII_RX_CLK/TIM5_CH2/TIM2_CH2/ADC123_IN1, 36 PA2/USART2_TX/TIM5_CH3/TIM9_CH1/TIM2_CH3/ETH_MDIO/ADC123_IN2, 37 PA3/USART2_RX/TIM5_CH4/TIM9_CH2/TIM2_CH4/OTG_HS_ULPI_D0/ETH_MII_COL/ADC123_IN3, 38 VSS, 39 VDD, 40 PA4/SPI1_NSS/SPI3_NSS/USART2_CK/DCMI_HSYNC/OTG_HS_SOF/I2S3_WS/ADC12_IN4/DAC_OUT1, 41 PA5/SPI1_SCK/OTG_HS_ULPI_CK/TIM2_CH1_ETR/TIM8_CH1N/ADC12_IN5/DAC_OUT2, 42 PA6/SPI1_MISO/TIM8_BKIN/TIM13_CH1/DCMI_PIXCLK/TIM3_CH1/TIM1_BKIN/ADC12_IN6, 43 PA7/SPI1_MOSI/TIM8_CH1N/TIM14_CH1/TIM3_CH2/ETH_MII_RX_DV/TIM1_CH1N/ETH_RMII_CRS_DV/ADC12_IN7, 44 PC4/ETH_RMII_RX_D0/ETH_MII_RX_D0/ADC12_IN14, 45 PC5/ETH_RMII_RX_D1/ETH_MII_RX_D1/ADC12_IN15, 46 PB0/TIM3_CH3/TIM8_CH2N/OTG_HS_ULPI_D1/ETH_MII_RXD2/TIM1_CH2N/ADC12_IN8, 47 PB1/TIM3_CH4/TIM8_CH3N/OTG_HS_ULPI_D2/ETH_MII_RXD3/TIM1_CH3N/ADC12_IN9, 48 PB2/BOOT1, 51 VSS, 52 VDD, 58 PE7/FSMC_D4/TIM1_ETR, 59 PE8/FSMC_D5/TIM1_CH1N, 60 PE9/FSMC_D6/TIM1_CH1, 61 VSS, 62 VDD, 63 PE10/FSMC_D7/TIM1_CH2N, 64 PE11/FSMC_D8/TIM1_CH2, 65 PE12/FSMC_D9/TIM1_CH3N, 66 PE13/FSMC_D10/TIM1_CH3, 67 PE14/FSMC_D11/TIM1_CH4, 68 PE15/FSMC_D12/TIM1_BKIN, 69 PB10/SPI2_SCK/I2S2_CK/I2C2_SCL/USART3_TX/OTG_HS_ULPI_D3/ETH_MII_RX_ER/TIM2_CH3, 70 PB11/I2C2_SDA/USART3_RX/OTG_HS_ULPI_D4/ETH_RMII_TX_EN/ETH_MII_TX_EN/TIM2_CH4, 71 VCAP_1, 72 VDD, 73 PB12/SPI2_NSS/I2S2_WS/I2C2_SMBA/USART3_CK/TIM1_BKIN/CAN2_RX/OTG_HS_ULPI_D5/ETH_RMII_TXD0/ETH_MII_TXD0/OTG_HS_ID, 74 PB13/SPI2_SCK/I2S2_CK/USART3_CTS/TIM1_CH1N/CAN2_TX/OTG_HS_ULPI_D6/ETH_RMII_TXD1/ETH_MII_TXD1/OTG_HS_VBUS, 75 PB14/SPI2_MISO/TIM1_CH2N/TIM12_CH1/OTG_HS_DM/USART3_RTS/TIM8_CH2N/I2S2ext_SD, 76 PB15/SPI2_MOSI/I2S2_SD/TIM1_CH3N/TIM8_CH3N/TIM12_CH2/OTG_HS_DP/RTC_REFIN, 77 PD8/FSMC_D13/USART3_TX, 78 PD9/FSMC_D14/USART3_RX, 79 PD10/FSMC_D15/USART3_CK, 80 PD11/FSMC_CLE/FSMC_A16/USART3_CTS, 81 PD12/FSMC_ALE/FSMC_A17/TIM4_CH1/USART3_RTS, 82 PD13/FSMC_A18/TIM4_CH2, 83 VSS, 84 VDD, 85 PD14/FSMC_D0/TIM4_CH3, 86 PD15/FSMC_D1/TIM4_CH4, 94 VSS, 95 VDD, 96 PC6/I2S2_MCK/TIM8_CH1/SDIO_D6/USART6_TX/DCMI_D0/TIM3_CH1, 97 PC7/I2S3_MCK/TIM8_CH2/SDIO_D7/USART6_RX/DCMI_D1/TIM3_CH2, 98 PC8/TIM8_CH3/SDIO_D0/TIM3_CH3/USART6_CK/DCMI_D2, 99 PC9/I2S_CKIN/MCO2/TIM8_CH4/SDIO_D1//I2C3_SDA/DCMI_D3/TIM3_CH4, 100 PA8/MCO1/USART1_CK/TIM1_CH1/I2C3_SCL/OTG_FS_SOF, 101 PA9/USART1_TX/TIM1_CH2/I2C3_SMBA/DCMI_D0/OTG_FS_VBUS, 102 PA10/USART1_RX/TIM1_CH3/OTG_FS_ID/DCMI_D1, 103 PA11/USART1_CTS/CAN1_RX/TIM1_CH4/OTG_FS_DM, 104 PA12/USART1_RTS/CAN1_TX/TIM1_ETR/OTG_FS_DP, 105 PA13/JTMS-SWDIO, 106 VCAP_2, 107 VSS, 108 VDD, 109 PA14/JTCK/SWCLK, 110 PA15/JTDI/SPI3_NSS/I2S3_WS/TIM2_CH1_ETR/SPI1_NSS, 111 PC10/SPI3_SCK/I2S3_CK/UART4_TX/SDIO_D2/DCMI_D8/USART3_TX, 112 PC11/UART4_RX/SPI3_MISO/SDIO_D3/DCMI_D4/USART3_RX/I2S3ext_SD, 113 PC12/UART5_TX/SDIO_CK/DCMI_D9/SPI3_MOSI/I2S3_SD/USART3_CK, 114 PD0/FSMC_D2/CAN1_RX, 115 PD1/FSMC_D3/CAN1_TX, 116 PD2/TIM3_ETR/UART5_RX/SDIO_CMD/DCMI_D11, 117 PD3/FSMC_CLK/USART2_CTS, 118 PD4/FSMC_NOE/USART2_RTS, 119 PD5/FSMC_NWE/USART2_TX, 120 VSS, 121 VDD, 122 PD6/FSMC_NWAIT/USART2_RX, 123 PD7/USART2_CK/FSMC_NE1/FSMC_NCE2, 130 VSS, 131 VDD, 133 PB3/JTDO/TRACESWO/JTDO/TRACESWO/SPI3_SCK/I2S3_CK/TIM2_CH2/SPI1_SCK, 134 PB4/NJTRST/SPI3_MISO/TIM3_CH1/SPI1_MISO/I2S3ext_SD, 135 PB5/I2C1_SMBA/CAN2_RX/OTG_HS_ULPI_D7/ETH_PPS_OUT/TIM3_CH2/SPI1_MOSI/SPI3_MOSI/DCMI_D10/I2S3_SD, 136 PB6/I2C1_SCL/TIM4_CH1/CAN2_TX/DCMI_D5/USART1_TX, 137 PB7/I2C1_SDA/FSMC_NL/DCMI_VSYNC/USART1_RX/TIM4_CH2, 138 BOOT0/VPP, 139 PB8/TIM4_CH3/SDIO_D4/TIM10_CH1/DCMI_D6/ETH_MII_TXD3/I2C1_SCL/CAN1_RX, 140 PB9/SPI2_NSS/I2S2_WS/TIM4_CH4/TIM11_CH1/SDIO_D5/DCMI_D7/I2C1_SDA/CAN1_TX, 141 PE0/TIM4_ETR/FSMC_NBL0/DCMI_D2, 142 PE1/FSMC_NBL1/DCMI_D3, 143 PDR_ON, 144 VDD
part B pins: 10 PF0/FSMC_A0/I2C2_SDA, 11 PF1/FSMC_A1/I2C2_SCL, 12 PF2/FSMC_A2/I2C2_SMBA, 13 PF3/FSMC_A3/ADC3_IN9, 14 PF4/FSMC_A4/ADC3_IN14, 15 PF5/FSMC_A5/ADC3_IN15, 18 PF6/TIM10_CH1/FSMC_NIORD/ADC3_IN4, 19 PF7/TIM11_CH1/FSMC_NREG/ADC3_IN5, 20 PF8/TIM13_CH1/FSMC_NIOWR/ADC3_IN6, 21 PF9/TIM14_CH1/FSMC_CD/ADC3_IN7, 22 PF10/FSMC_INTR/ADC3_IN8, 49 PF11/DCMI_D12, 50 PF12/FSMC_A6, 53 PF13/FSMC_A7, 54 PF14/FSMC_A8, 55 PF15/FSMC_A9, 56 PG0/FSMC_A10, 57 PG1/FSMC_A11, 87 PG2/FSMC_A12, 88 PG3/FSMC_A13, 89 PG4/FSMC_A14, 90 PG5/FSMC_A15, 91 PG6/FSMC_INT2, 92 PG7/FSMC_INT3/USART6_CK, 93 PG8/USART6_RTS/ETH_PPS_OUT, 124 PG9/USART6_RX/FSMC_NE2/FSMC_NCE3, 125 PG10/FSMC_NCE4_1/FSMC_NE3, 126 PG11/FSMC_NCE4_2/ETH_MII_TX_EN/ETH_RMII_TX_EN, 127 PG12/FSMC_NE4/USART6_RTS, 128 PG13/FSMC_A24/USART6_CTS/ETH_MII_TXD0/ETH_RMII_TXD0, 129 PG14/FSMC_A25/USART6_TX/ETH_MII_TXD1/ETH_RMII_TXD1, 132 PG15/USART6_CTS/DCMI_D13
part A text: STM32F407   Part1
part B text: STM32F407   Part2

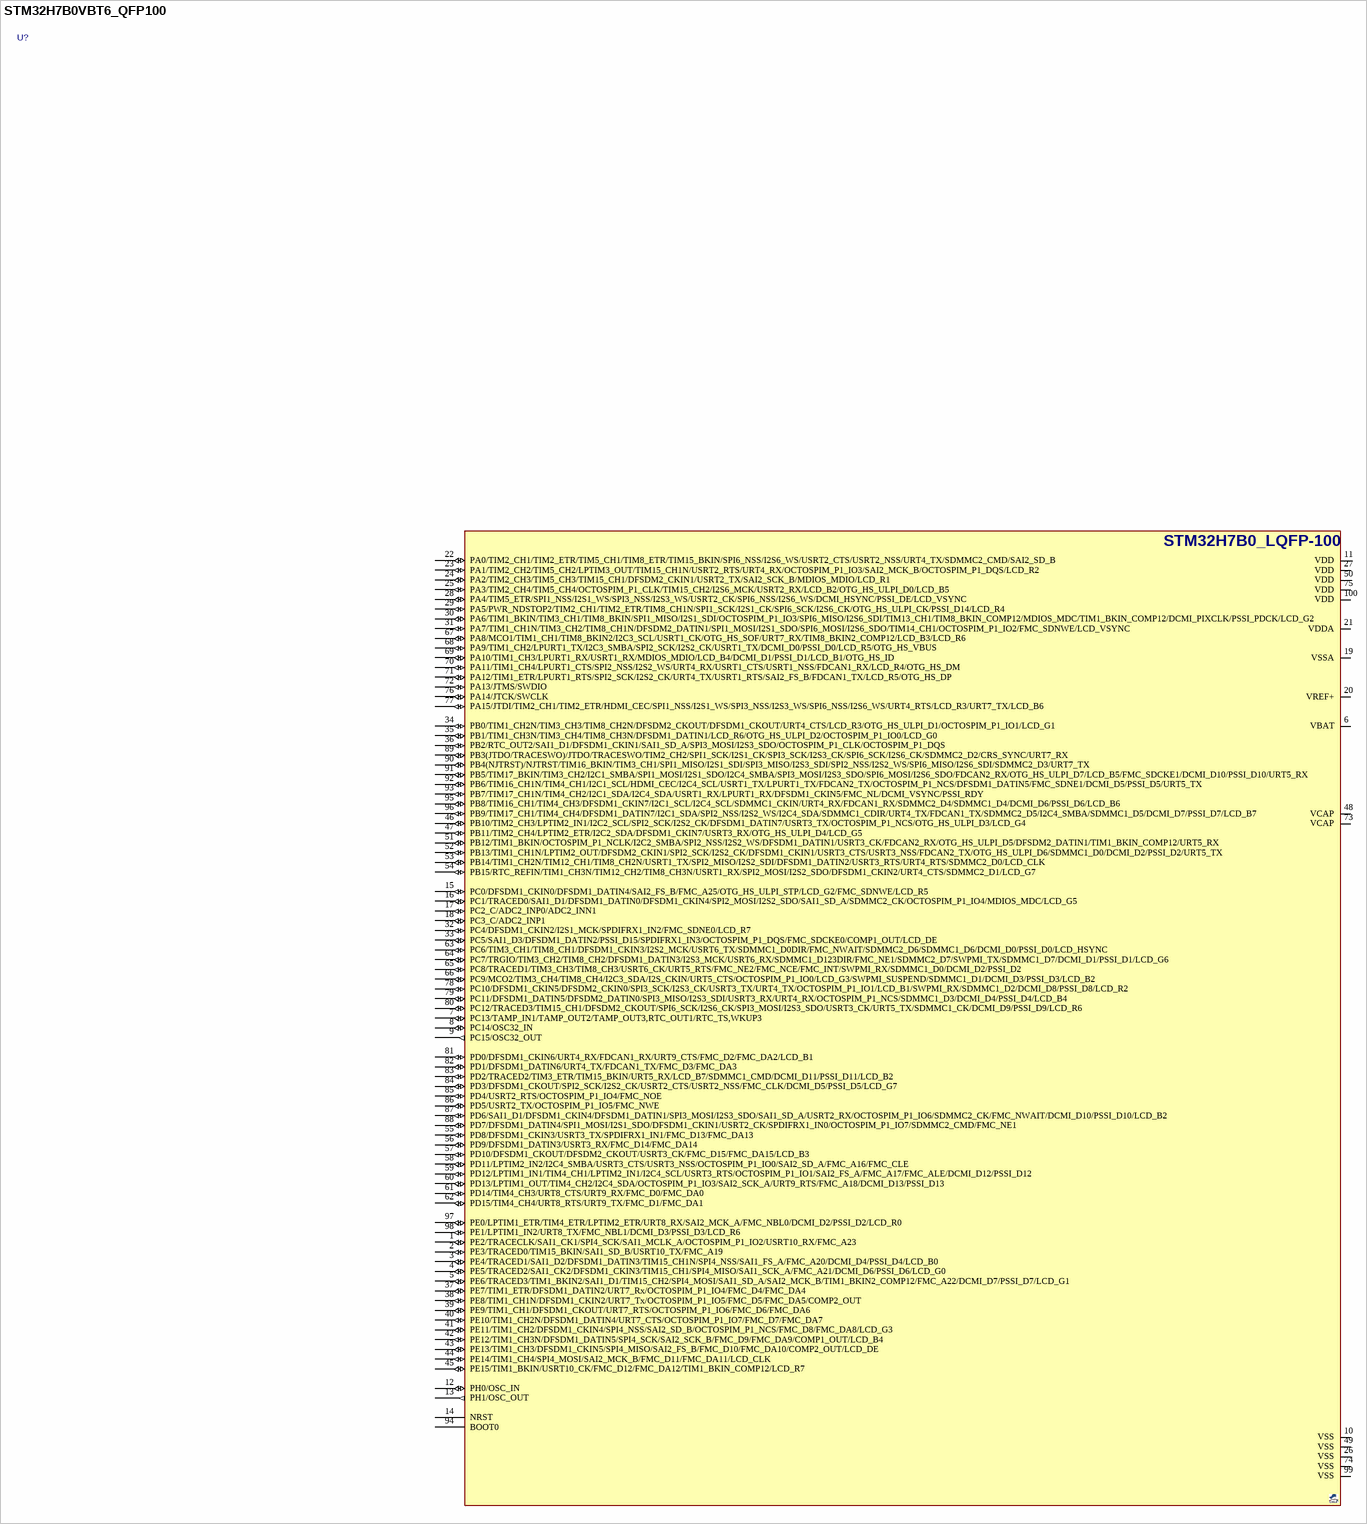
[diagram p20: symbol STM32H7B0VBT6_QFP100]

## STM32H7B0VBT6_QFP100
designator U?, comment STM32H7B0  (value not drawn)
MCU, STM32 ARM 32-bit, Cortex M7, 128KB FLASH, 1.4MB SRAM; DESC: USB_OTG HS/FS, Ethernet, 3 ADCs, DAC, CAN, I2C, SPI, UART, camera, LCD; MANF: ST; MANF_P#: STM32H7B0VBT6; PARAM2: 2~3.6VCC, 280MHz, 2X16Bit 3.6MSPS ADC, 2X12Bit 1MHz DAC; PARAM: 128kB FLASH, 1.4MB SRAM, -40~105oC; PRICE: 11$; VALUE: STM32H7B0; PACKAGE: QFP-100
footprint QFG50_100 (LQFP100, PQFP100, A100 (Cypress), TQ100/VQ100 (Xilinx), 14.0x14.0mm, Pitch 0.5mm, HT100, HTG100)
pins: 1 PE2/TRACECLK/SAI1_CK1/SPI4_SCK/SAI1_MCLK_A/OCTOSPIM_P1_IO2/USRT10_RX/FMC_A23 (io), 2 PE3/TRACED0/TIM15_BKIN/SAI1_SD_B/USRT10_TX/FMC_A19 (io), 3 PE4/TRACED1/SAI1_D2/DFSDM1_DATIN3/TIM15_CH1N/SPI4_NSS/SAI1_FS_A/FMC_A20/DCMI_D4/PSSI_D4/LCD_B0 (io), 4 PE5/TRACED2/SAI1_CK2/DFSDM1_CKIN3/TIM15_CH1/SPI4_MISO/SAI1_SCK_A/FMC_A21/DCMI_D6/PSSI_D6/LCD_G0 (io), 5 PE6/TRACED3/TIM1_BKIN2/SAI1_D1/TIM15_CH2/SPI4_MOSI/SAI1_SD_A/SAI2_MCK_B/TIM1_BKIN2_COMP12/FMC_A22/DCMI_D7/PSSI_D7/LCD_G1 (io), 6 VBAT, 7 PC13/TAMP_IN1/TAMP_OUT2/TAMP_OUT3,RTC_OUT1/RTC_TS,WKUP3 (io), 8 PC14/OSC32_IN (io), 9 PC15/OSC32_OUT (out), 10 VSS, 11 VDD (power), 12 PH0/OSC_IN (io), 13 PH1/OSC_OUT (out), 14 NRST, 15 PC0/DFSDM1_CKIN0/DFSDM1_DATIN4/SAI2_FS_B/FMC_A25/OTG_HS_ULPI_STP/LCD_G2/FMC_SDNWE/LCD_R5 (io), 16 PC1/TRACED0/SAI1_D1/DFSDM1_DATIN0/DFSDM1_CKIN4/SPI2_MOSI/I2S2_SDO/SAI1_SD_A/SDMMC2_CK/OCTOSPIM_P1_IO4/MDIOS_MDC/LCD_G5 (io), 17 PC2_C/ADC2_INP0/ADC2_INN1 (io), 18 PC3_C/ADC2_INP1 (io), 19 VSSA, 20 VREF+ (power), 21 VDDA (power), 22 PA0/TIM2_CH1/TIM2_ETR/TIM5_CH1/TIM8_ETR/TIM15_BKIN/SPI6_NSS/I2S6_WS/USRT2_CTS/USRT2_NSS/URT4_TX/SDMMC2_CMD/SAI2_SD_B (io), 23 PA1/TIM2_CH2/TIM5_CH2/LPTIM3_OUT/TIM15_CH1N/USRT2_RTS/URT4_RX/OCTOSPIM_P1_IO3/SAI2_MCK_B/OCTOSPIM_P1_DQS/LCD_R2 (io), 24 PA2/TIM2_CH3/TIM5_CH3/TIM15_CH1/DFSDM2_CKIN1/USRT2_TX/SAI2_SCK_B/MDIOS_MDIO/LCD_R1 (io), 25 PA3/TIM2_CH4/TIM5_CH4/OCTOSPIM_P1_CLK/TIM15_CH2/I2S6_MCK/USRT2_RX/LCD_B2/OTG_HS_ULPI_D0/LCD_B5 (io), 26 VSS, 27 VDD (power), 28 PA4/TIM5_ETR/SPI1_NSS/I2S1_WS/SPI3_NSS/I2S3_WS/USRT2_CK/SPI6_NSS/I2S6_WS/DCMI_HSYNC/PSSI_DE/LCD_VSYNC (io), 29 PA5/PWR_NDSTOP2/TIM2_CH1/TIM2_ETR/TIM8_CH1N/SPI1_SCK/I2S1_CK/SPI6_SCK/I2S6_CK/OTG_HS_ULPI_CK/PSSI_D14/LCD_R4 (io), 30 PA6/TIM1_BKIN/TIM3_CH1/TIM8_BKIN/SPI1_MISO/I2S1_SDI/OCTOSPIM_P1_IO3/SPI6_MISO/I2S6_SDI/TIM13_CH1/TIM8_BKIN_COMP12/MDIOS_MDC/TIM1_BKIN_COMP12/DCMI_PIXCLK/PSSI_PDCK/LCD_G2 (io), 31 PA7/TIM1_CH1N/TIM3_CH2/TIM8_CH1N/DFSDM2_DATIN1/SPI1_MOSI/I2S1_SDO/SPI6_MOSI/I2S6_SDO/TIM14_CH1/OCTOSPIM_P1_IO2/FMC_SDNWE/LCD_VSYNC (io), 32 PC4/DFSDM1_CKIN2/I2S1_MCK/SPDIFRX1_IN2/FMC_SDNE0/LCD_R7 (io), 33 PC5/SAI1_D3/DFSDM1_DATIN2/PSSI_D15/SPDIFRX1_IN3/OCTOSPIM_P1_DQS/FMC_SDCKE0/COMP1_OUT/LCD_DE (io), 34 PB0/TIM1_CH2N/TIM3_CH3/TIM8_CH2N/DFSDM2_CKOUT/DFSDM1_CKOUT/URT4_CTS/LCD_R3/OTG_HS_ULPI_D1/OCTOSPIM_P1_IO1/LCD_G1 (io), 35 PB1/TIM1_CH3N/TIM3_CH4/TIM8_CH3N/DFSDM1_DATIN1/LCD_R6/OTG_HS_ULPI_D2/OCTOSPIM_P1_IO0/LCD_G0 (io), 36 PB2/RTC_OUT2/SAI1_D1/DFSDM1_CKIN1/SAI1_SD_A/SPI3_MOSI/I2S3_SDO/OCTOSPIM_P1_CLK/OCTOSPIM_P1_DQS (io), 37 PE7/TIM1_ETR/DFSDM1_DATIN2/URT7_Rx/OCTOSPIM_P1_IO4/FMC_D4/FMC_DA4 (io), 38 PE8/TIM1_CH1N/DFSDM1_CKIN2/URT7_Tx/OCTOSPIM_P1_IO5/FMC_D5/FMC_DA5/COMP2_OUT (io), 39 PE9/TIM1_CH1/DFSDM1_CKOUT/URT7_RTS/OCTOSPIM_P1_IO6/FMC_D6/FMC_DA6 (io), 40 PE10/TIM1_CH2N/DFSDM1_DATIN4/URT7_CTS/OCTOSPIM_P1_IO7/FMC_D7/FMC_DA7 (io), 41 PE11/TIM1_CH2/DFSDM1_CKIN4/SPI4_NSS/SAI2_SD_B/OCTOSPIM_P1_NCS/FMC_D8/FMC_DA8/LCD_G3 (io), 42 PE12/TIM1_CH3N/DFSDM1_DATIN5/SPI4_SCK/SAI2_SCK_B/FMC_D9/FMC_DA9/COMP1_OUT/LCD_B4 (io), 43 PE13/TIM1_CH3/DFSDM1_CKIN5/SPI4_MISO/SAI2_FS_B/FMC_D10/FMC_DA10/COMP2_OUT/LCD_DE (io), 44 PE14/TIM1_CH4/SPI4_MOSI/SAI2_MCK_B/FMC_D11/FMC_DA11/LCD_CLK (io), 45 PE15/TIM1_BKIN/USRT10_CK/FMC_D12/FMC_DA12/TIM1_BKIN_COMP12/LCD_R7 (io), 46 PB10/TIM2_CH3/LPTIM2_IN1/I2C2_SCL/SPI2_SCK/I2S2_CK/DFSDM1_DATIN7/USRT3_TX/OCTOSPIM_P1_NCS/OTG_HS_ULPI_D3/LCD_G4 (io), 47 PB11/TIM2_CH4/LPTIM2_ETR/I2C2_SDA/DFSDM1_CKIN7/USRT3_RX/OTG_HS_ULPI_D4/LCD_G5 (io), 48 VCAP, 49 VSS, 50 VDD (power), 51 PB12/TIM1_BKIN/OCTOSPIM_P1_NCLK/I2C2_SMBA/SPI2_NSS/I2S2_WS/DFSDM1_DATIN1/USRT3_CK/FDCAN2_RX/OTG_HS_ULPI_D5/DFSDM2_DATIN1/TIM1_BKIN_COMP12/URT5_RX (io), 52 PB13/TIM1_CH1N/LPTIM2_OUT/DFSDM2_CKIN1/SPI2_SCK/I2S2_CK/DFSDM1_CKIN1/USRT3_CTS/USRT3_NSS/FDCAN2_TX/OTG_HS_ULPI_D6/SDMMC1_D0/DCMI_D2/PSSI_D2/URT5_TX (io), 53 PB14/TIM1_CH2N/TIM12_CH1/TIM8_CH2N/USRT1_TX/SPI2_MISO/I2S2_SDI/DFSDM1_DATIN2/USRT3_RTS/URT4_RTS/SDMMC2_D0/LCD_CLK (io), 54 PB15/RTC_REFIN/TIM1_CH3N/TIM12_CH2/TIM8_CH3N/USRT1_RX/SPI2_MOSI/I2S2_SDO/DFSDM1_CKIN2/URT4_CTS/SDMMC2_D1/LCD_G7 (io), 55 PD8/DFSDM1_CKIN3/USRT3_TX/SPDIFRX1_IN1/FMC_D13/FMC_DA13 (io), 56 PD9/DFSDM1_DATIN3/USRT3_RX/FMC_D14/FMC_DA14 (io), 57 PD10/DFSDM1_CKOUT/DFSDM2_CKOUT/USRT3_CK/FMC_D15/FMC_DA15/LCD_B3 (io), 58 PD11/LPTIM2_IN2/I2C4_SMBA/USRT3_CTS/USRT3_NSS/OCTOSPIM_P1_IO0/SAI2_SD_A/FMC_A16/FMC_CLE (io), 59 PD12/LPTIM1_IN1/TIM4_CH1/LPTIM2_IN1/I2C4_SCL/USRT3_RTS/OCTOSPIM_P1_IO1/SAI2_FS_A/FMC_A17/FMC_ALE/DCMI_D12/PSSI_D12 (io), 60 PD13/LPTIM1_OUT/TIM4_CH2/I2C4_SDA/OCTOSPIM_P1_IO3/SAI2_SCK_A/URT9_RTS/FMC_A18/DCMI_D13/PSSI_D13 (io), 61 PD14/TIM4_CH3/URT8_CTS/URT9_RX/FMC_D0/FMC_DA0 (io), 62 PD15/TIM4_CH4/URT8_RTS/URT9_TX/FMC_D1/FMC_DA1 (io), 63 PC6/TIM3_CH1/TIM8_CH1/DFSDM1_CKIN3/I2S2_MCK/USRT6_TX/SDMMC1_D0DIR/FMC_NWAIT/SDMMC2_D6/SDMMC1_D6/DCMI_D0/PSSI_D0/LCD_HSYNC (io), 64 PC7/TRGIO/TIM3_CH2/TIM8_CH2/DFSDM1_DATIN3/I2S3_MCK/USRT6_RX/SDMMC1_D123DIR/FMC_NE1/SDMMC2_D7/SWPMI_TX/SDMMC1_D7/DCMI_D1/PSSI_D1/LCD_G6 (io), 65 PC8/TRACED1/TIM3_CH3/TIM8_CH3/USRT6_CK/URT5_RTS/FMC_NE2/FMC_NCE/FMC_INT/SWPMI_RX/SDMMC1_D0/DCMI_D2/PSSI_D2 (io), 66 PC9/MCO2/TIM3_CH4/TIM8_CH4/I2C3_SDA/I2S_CKIN/URT5_CTS/OCTOSPIM_P1_IO0/LCD_G3/SWPMI_SUSPEND/SDMMC1_D1/DCMI_D3/PSSI_D3/LCD_B2 (io), 67 PA8/MCO1/TIM1_CH1/TIM8_BKIN2/I2C3_SCL/USRT1_CK/OTG_HS_SOF/URT7_RX/TIM8_BKIN2_COMP12/LCD_B3/LCD_R6 (io), 68 PA9/TIM1_CH2/LPURT1_TX/I2C3_SMBA/SPI2_SCK/I2S2_CK/USRT1_TX/DCMI_D0/PSSI_D0/LCD_R5/OTG_HS_VBUS (io), 69 PA10/TIM1_CH3/LPURT1_RX/USRT1_RX/MDIOS_MDIO/LCD_B4/DCMI_D1/PSSI_D1/LCD_B1/OTG_HS_ID (io), 70 PA11/TIM1_CH4/LPURT1_CTS/SPI2_NSS/I2S2_WS/URT4_RX/USRT1_CTS/USRT1_NSS/FDCAN1_RX/LCD_R4/OTG_HS_DM (io), 71 PA12/TIM1_ETR/LPURT1_RTS/SPI2_SCK/I2S2_CK/URT4_TX/USRT1_RTS/SAI2_FS_B/FDCAN1_TX/LCD_R5/OTG_HS_DP (io), 72 PA13/JTMS/SWDIO (io), 73 VCAP, 74 VSS, 75 VDD (power), 76 PA14/JTCK/SWCLK (io), 77 PA15/JTDI/TIM2_CH1/TIM2_ETR/HDMI_CEC/SPI1_NSS/I2S1_WS/SPI3_NSS/I2S3_WS/SPI6_NSS/I2S6_WS/URT4_RTS/LCD_R3/URT7_TX/LCD_B6 (io), 78 PC10/DFSDM1_CKIN5/DFSDM2_CKIN0/SPI3_SCK/I2S3_CK/USRT3_TX/URT4_TX/OCTOSPIM_P1_IO1/LCD_B1/SWPMI_RX/SDMMC1_D2/DCMI_D8/PSSI_D8/LCD_R2 (io), 79 PC11/DFSDM1_DATIN5/DFSDM2_DATIN0/SPI3_MISO/I2S3_SDI/USRT3_RX/URT4_RX/OCTOSPIM_P1_NCS/SDMMC1_D3/DCMI_D4/PSSI_D4/LCD_B4 (io), 80 PC12/TRACED3/TIM15_CH1/DFSDM2_CKOUT/SPI6_SCK/I2S6_CK/SPI3_MOSI/I2S3_SDO/USRT3_CK/URT5_TX/SDMMC1_CK/DCMI_D9/PSSI_D9/LCD_R6 (io), 81 PD0/DFSDM1_CKIN6/URT4_RX/FDCAN1_RX/URT9_CTS/FMC_D2/FMC_DA2/LCD_B1 (io), 82 PD1/DFSDM1_DATIN6/URT4_TX/FDCAN1_TX/FMC_D3/FMC_DA3 (io), 83 PD2/TRACED2/TIM3_ETR/TIM15_BKIN/URT5_RX/LCD_B7/SDMMC1_CMD/DCMI_D11/PSSI_D11/LCD_B2 (io), 84 PD3/DFSDM1_CKOUT/SPI2_SCK/I2S2_CK/USRT2_CTS/USRT2_NSS/FMC_CLK/DCMI_D5/PSSI_D5/LCD_G7 (io), 85 PD4/USRT2_RTS/OCTOSPIM_P1_IO4/FMC_NOE (io), 86 PD5/USRT2_TX/OCTOSPIM_P1_IO5/FMC_NWE (io), 87 PD6/SAI1_D1/DFSDM1_CKIN4/DFSDM1_DATIN1/SPI3_MOSI/I2S3_SDO/SAI1_SD_A/USRT2_RX/OCTOSPIM_P1_IO6/SDMMC2_CK/FMC_NWAIT/DCMI_D10/PSSI_D10/LCD_B2 (io), 88 PD7/DFSDM1_DATIN4/SPI1_MOSI/I2S1_SDO/DFSDM1_CKIN1/USRT2_CK/SPDIFRX1_IN0/OCTOSPIM_P1_IO7/SDMMC2_CMD/FMC_NE1 (io), 89 PB3(JTDO/TRACESWO)/JTDO/TRACESWO/TIM2_CH2/SPI1_SCK/I2S1_CK/SPI3_SCK/I2S3_CK/SPI6_SCK/I2S6_CK/SDMMC2_D2/CRS_SYNC/URT7_RX (io), 90 PB4(NJTRST)/NJTRST/TIM16_BKIN/TIM3_CH1/SPI1_MISO/I2S1_SDI/SPI3_MISO/I2S3_SDI/SPI2_NSS/I2S2_WS/SPI6_MISO/I2S6_SDI/SDMMC2_D3/URT7_TX (io), 91 PB5/TIM17_BKIN/TIM3_CH2/I2C1_SMBA/SPI1_MOSI/I2S1_SDO/I2C4_SMBA/SPI3_MOSI/I2S3_SDO/SPI6_MOSI/I2S6_SDO/FDCAN2_RX/OTG_HS_ULPI_D7/LCD_B5/FMC_SDCKE1/DCMI_D10/PSSI_D10/URT5_RX (io), 92 PB6/TIM16_CH1N/TIM4_CH1/I2C1_SCL/HDMI_CEC/I2C4_SCL/USRT1_TX/LPURT1_TX/FDCAN2_TX/OCTOSPIM_P1_NCS/DFSDM1_DATIN5/FMC_SDNE1/DCMI_D5/PSSI_D5/URT5_TX (io), 93 PB7/TIM17_CH1N/TIM4_CH2/I2C1_SDA/I2C4_SDA/USRT1_RX/LPURT1_RX/DFSDM1_CKIN5/FMC_NL/DCMI_VSYNC/PSSI_RDY (io), 94 BOOT0, 95 PB8/TIM16_CH1/TIM4_CH3/DFSDM1_CKIN7/I2C1_SCL/I2C4_SCL/SDMMC1_CKIN/URT4_RX/FDCAN1_RX/SDMMC2_D4/SDMMC1_D4/DCMI_D6/PSSI_D6/LCD_B6 (io), 96 PB9/TIM17_CH1/TIM4_CH4/DFSDM1_DATIN7/I2C1_SDA/SPI2_NSS/I2S2_WS/I2C4_SDA/SDMMC1_CDIR/URT4_TX/FDCAN1_TX/SDMMC2_D5/I2C4_SMBA/SDMMC1_D5/DCMI_D7/PSSI_D7/LCD_B7 (io), 97 PE0/LPTIM1_ETR/TIM4_ETR/LPTIM2_ETR/URT8_RX/SAI2_MCK_A/FMC_NBL0/DCMI_D2/PSSI_D2/LCD_R0 (io), 98 PE1/LPTIM1_IN2/URT8_TX/FMC_NBL1/DCMI_D3/PSSI_D3/LCD_R6 (io), 99 VSS, 100 VDD (power)
text: STM32H7B0_LQFP-100

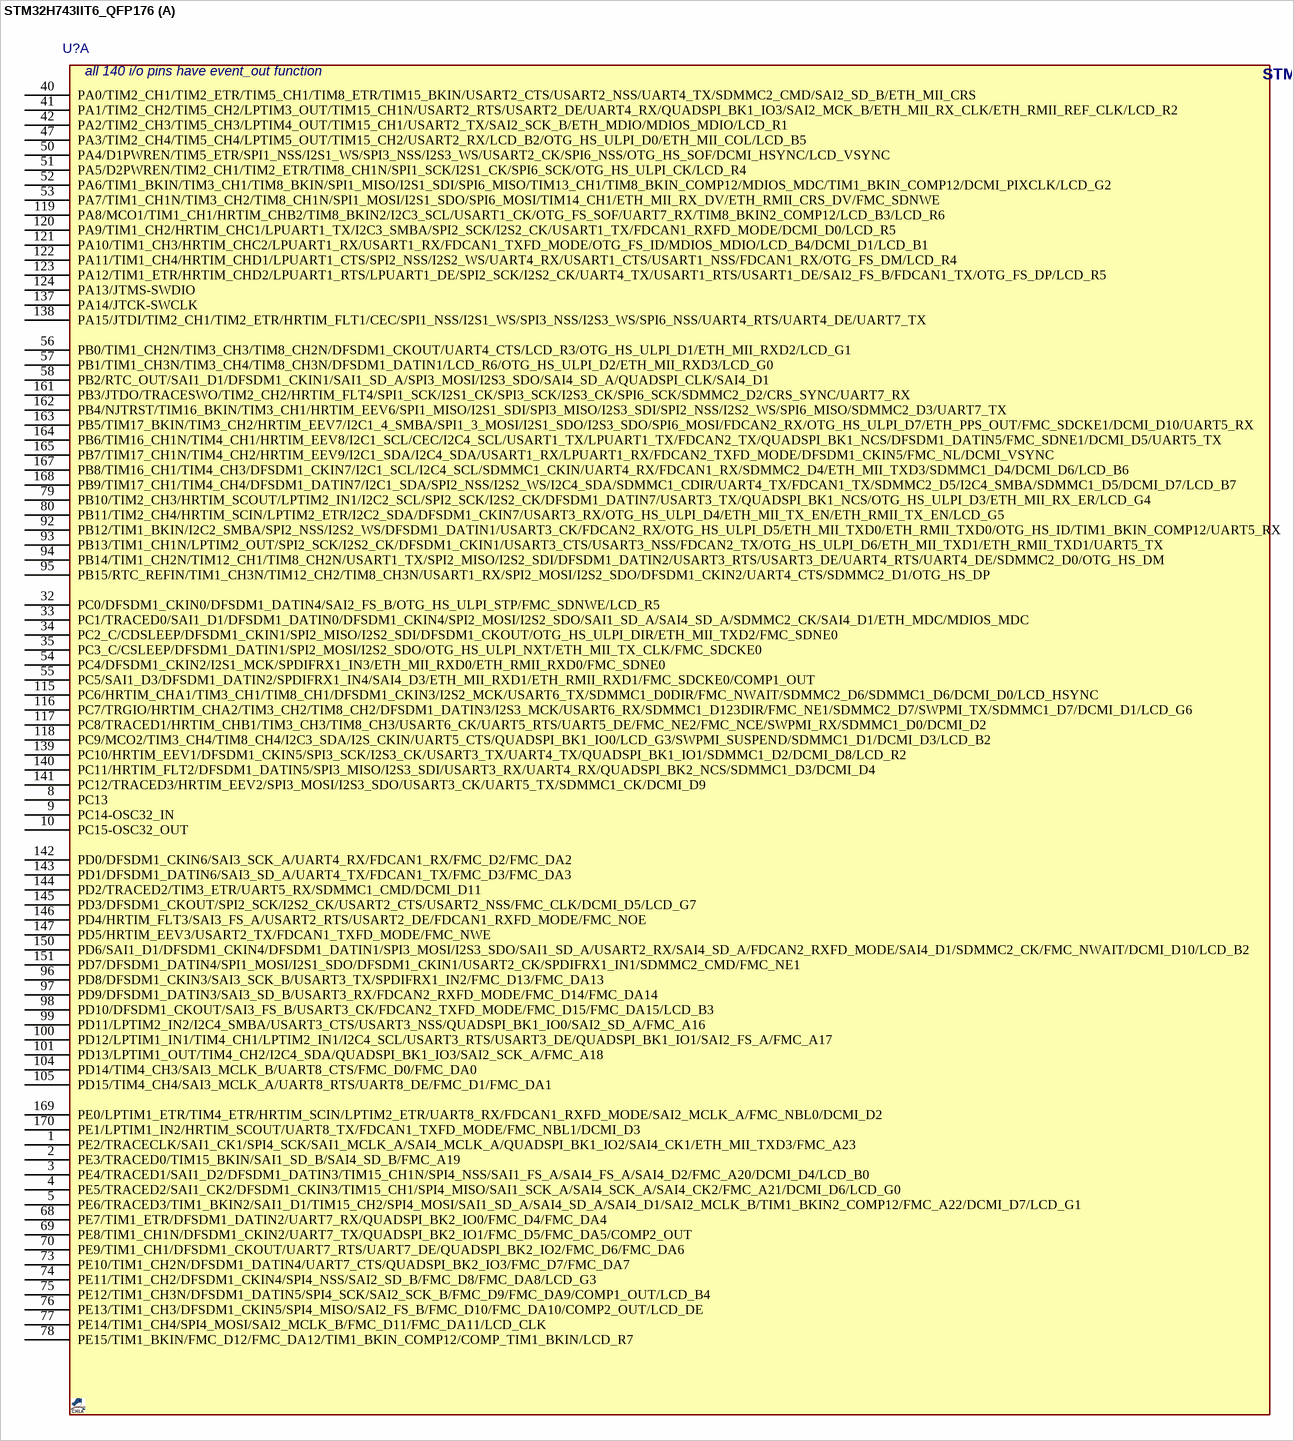
[diagram p21: symbol STM32H743IIT6_QFP176]

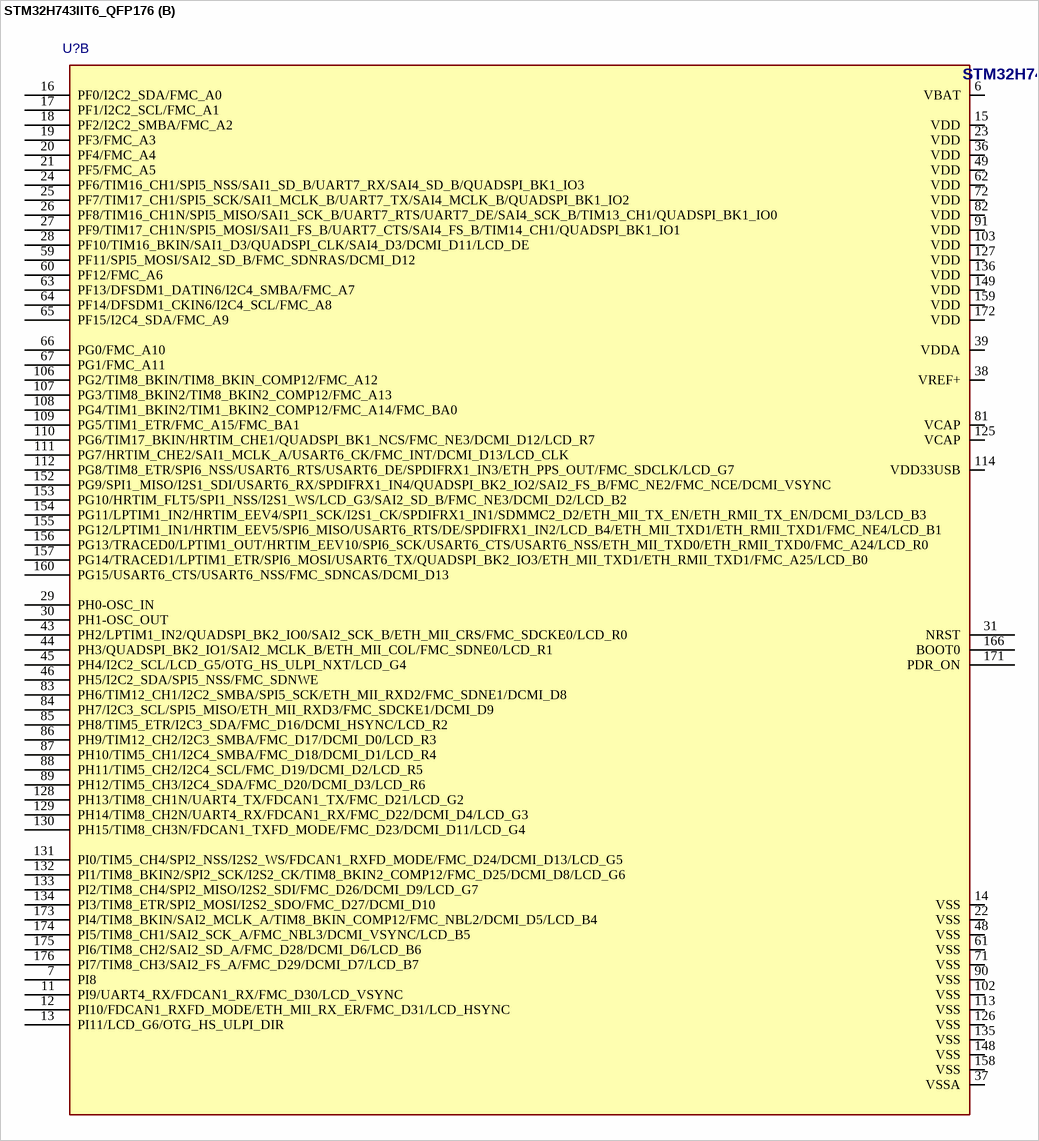
[diagram p22: symbol STM32H743IIT6_QFP176]

## STM32H743IIT6_QFP176
designator U?, comment STM32H743  (value not drawn)
MCU, STM32 ARM 32-bit, Cortex M7, 2MB FLASH, 1MB SRAM; DESC: USB_OTG HS/FS, Ethernet, 3 ADCs, DAC, CAN, I2C, SPI, UART, camera, LCD; MANF: ST; MANF_P#: STM32H743IIT6; PARAM2: 2~3.6VCC, 400MHz, 3X16Bit 4.5MSPS ADC, 2X12Bit 1MHz DAC; PARAM: 2MB FLASH, 1MB SRAM, -40~85°C; PRICE: 13$; VALUE: STM32H743; PACKAGE: QFP-176
footprint QFG50_176 (PQFP176, HT176/TQ176 (Xilinx), 24X24mm, Pitch: 0.5mm, HTG176)
part A pins: 1 PE2/TRACECLK/SAI1_CK1/SPI4_SCK/SAI1_MCLK_A/SAI4_MCLK_A/QUADSPI_BK1_IO2/SAI4_CK1/ETH_MII_TXD3/FMC_A23, 2 PE3/TRACED0/TIM15_BKIN/SAI1_SD_B/SAI4_SD_B/FMC_A19, 3 PE4/TRACED1/SAI1_D2/DFSDM1_DATIN3/TIM15_CH1N/SPI4_NSS/SAI1_FS_A/SAI4_FS_A/SAI4_D2/FMC_A20/DCMI_D4/LCD_B0, 4 PE5/TRACED2/SAI1_CK2/DFSDM1_CKIN3/TIM15_CH1/SPI4_MISO/SAI1_SCK_A/SAI4_SCK_A/SAI4_CK2/FMC_A21/DCMI_D6/LCD_G0, 5 PE6/TRACED3/TIM1_BKIN2/SAI1_D1/TIM15_CH2/SPI4_MOSI/SAI1_SD_A/SAI4_SD_A/SAI4_D1/SAI2_MCLK_B/TIM1_BKIN2_COMP12/FMC_A22/DCMI_D7/LCD_G1, 8 PC13, 9 PC14-OSC32_IN, 10 PC15-OSC32_OUT, 32 PC0/DFSDM1_CKIN0/DFSDM1_DATIN4/SAI2_FS_B/OTG_HS_ULPI_STP/FMC_SDNWE/LCD_R5, 33 PC1/TRACED0/SAI1_D1/DFSDM1_DATIN0/DFSDM1_CKIN4/SPI2_MOSI/I2S2_SDO/SAI1_SD_A/SAI4_SD_A/SDMMC2_CK/SAI4_D1/ETH_MDC/MDIOS_MDC, 34 PC2_C/CDSLEEP/DFSDM1_CKIN1/SPI2_MISO/I2S2_SDI/DFSDM1_CKOUT/OTG_HS_ULPI_DIR/ETH_MII_TXD2/FMC_SDNE0, 35 PC3_C/CSLEEP/DFSDM1_DATIN1/SPI2_MOSI/I2S2_SDO/OTG_HS_ULPI_NXT/ETH_MII_TX_CLK/FMC_SDCKE0, 40 PA0/TIM2_CH1/TIM2_ETR/TIM5_CH1/TIM8_ETR/TIM15_BKIN/USART2_CTS/USART2_NSS/UART4_TX/SDMMC2_CMD/SAI2_SD_B/ETH_MII_CRS, 41 PA1/TIM2_CH2/TIM5_CH2/LPTIM3_OUT/TIM15_CH1N/USART2_RTS/USART2_DE/UART4_RX/QUADSPI_BK1_IO3/SAI2_MCK_B/ETH_MII_RX_CLK/ETH_RMII_REF_CLK/LCD_R2, 42 PA2/TIM2_CH3/TIM5_CH3/LPTIM4_OUT/TIM15_CH1/USART2_TX/SAI2_SCK_B/ETH_MDIO/MDIOS_MDIO/LCD_R1, 47 PA3/TIM2_CH4/TIM5_CH4/LPTIM5_OUT/TIM15_CH2/USART2_RX/LCD_B2/OTG_HS_ULPI_D0/ETH_MII_COL/LCD_B5, 50 PA4/D1PWREN/TIM5_ETR/SPI1_NSS/I2S1_WS/SPI3_NSS/I2S3_WS/USART2_CK/SPI6_NSS/OTG_HS_SOF/DCMI_HSYNC/LCD_VSYNC, 51 PA5/D2PWREN/TIM2_CH1/TIM2_ETR/TIM8_CH1N/SPI1_SCK/I2S1_CK/SPI6_SCK/OTG_HS_ULPI_CK/LCD_R4, 52 PA6/TIM1_BKIN/TIM3_CH1/TIM8_BKIN/SPI1_MISO/I2S1_SDI/SPI6_MISO/TIM13_CH1/TIM8_BKIN_COMP12/MDIOS_MDC/TIM1_BKIN_COMP12/DCMI_PIXCLK/LCD_G2, 53 PA7/TIM1_CH1N/TIM3_CH2/TIM8_CH1N/SPI1_MOSI/I2S1_SDO/SPI6_MOSI/TIM14_CH1/ETH_MII_RX_DV/ETH_RMII_CRS_DV/FMC_SDNWE, 54 PC4/DFSDM1_CKIN2/I2S1_MCK/SPDIFRX1_IN3/ETH_MII_RXD0/ETH_RMII_RXD0/FMC_SDNE0, 55 PC5/SAI1_D3/DFSDM1_DATIN2/SPDIFRX1_IN4/SAI4_D3/ETH_MII_RXD1/ETH_RMII_RXD1/FMC_SDCKE0/COMP1_OUT, 56 PB0/TIM1_CH2N/TIM3_CH3/TIM8_CH2N/DFSDM1_CKOUT/UART4_CTS/LCD_R3/OTG_HS_ULPI_D1/ETH_MII_RXD2/LCD_G1, 57 PB1/TIM1_CH3N/TIM3_CH4/TIM8_CH3N/DFSDM1_DATIN1/LCD_R6/OTG_HS_ULPI_D2/ETH_MII_RXD3/LCD_G0, 58 PB2/RTC_OUT/SAI1_D1/DFSDM1_CKIN1/SAI1_SD_A/SPI3_MOSI/I2S3_SDO/SAI4_SD_A/QUADSPI_CLK/SAI4_D1, 68 PE7/TIM1_ETR/DFSDM1_DATIN2/UART7_RX/QUADSPI_BK2_IO0/FMC_D4/FMC_DA4, 69 PE8/TIM1_CH1N/DFSDM1_CKIN2/UART7_TX/QUADSPI_BK2_IO1/FMC_D5/FMC_DA5/COMP2_OUT, 70 PE9/TIM1_CH1/DFSDM1_CKOUT/UART7_RTS/UART7_DE/QUADSPI_BK2_IO2/FMC_D6/FMC_DA6, 73 PE10/TIM1_CH2N/DFSDM1_DATIN4/UART7_CTS/QUADSPI_BK2_IO3/FMC_D7/FMC_DA7, 74 PE11/TIM1_CH2/DFSDM1_CKIN4/SPI4_NSS/SAI2_SD_B/FMC_D8/FMC_DA8/LCD_G3, 75 PE12/TIM1_CH3N/DFSDM1_DATIN5/SPI4_SCK/SAI2_SCK_B/FMC_D9/FMC_DA9/COMP1_OUT/LCD_B4, 76 PE13/TIM1_CH3/DFSDM1_CKIN5/SPI4_MISO/SAI2_FS_B/FMC_D10/FMC_DA10/COMP2_OUT/LCD_DE, 77 PE14/TIM1_CH4/SPI4_MOSI/SAI2_MCLK_B/FMC_D11/FMC_DA11/LCD_CLK, 78 PE15/TIM1_BKIN/FMC_D12/FMC_DA12/TIM1_BKIN_COMP12/COMP_TIM1_BKIN/LCD_R7, 79 PB10/TIM2_CH3/HRTIM_SCOUT/LPTIM2_IN1/I2C2_SCL/SPI2_SCK/I2S2_CK/DFSDM1_DATIN7/USART3_TX/QUADSPI_BK1_NCS/OTG_HS_ULPI_D3/ETH_MII_RX_ER/LCD_G4, 80 PB11/TIM2_CH4/HRTIM_SCIN/LPTIM2_ETR/I2C2_SDA/DFSDM1_CKIN7/USART3_RX/OTG_HS_ULPI_D4/ETH_MII_TX_EN/ETH_RMII_TX_EN/LCD_G5, 92 PB12/TIM1_BKIN/I2C2_SMBA/SPI2_NSS/I2S2_WS/DFSDM1_DATIN1/USART3_CK/FDCAN2_RX/OTG_HS_ULPI_D5/ETH_MII_TXD0/ETH_RMII_TXD0/OTG_HS_ID/TIM1_BKIN_COMP12/UART5_RX, 93 PB13/TIM1_CH1N/LPTIM2_OUT/SPI2_SCK/I2S2_CK/DFSDM1_CKIN1/USART3_CTS/USART3_NSS/FDCAN2_TX/OTG_HS_ULPI_D6/ETH_MII_TXD1/ETH_RMII_TXD1/UART5_TX, 94 PB14/TIM1_CH2N/TIM12_CH1/TIM8_CH2N/USART1_TX/SPI2_MISO/I2S2_SDI/DFSDM1_DATIN2/USART3_RTS/USART3_DE/UART4_RTS/UART4_DE/SDMMC2_D0/OTG_HS_DM, 95 PB15/RTC_REFIN/TIM1_CH3N/TIM12_CH2/TIM8_CH3N/USART1_RX/SPI2_MOSI/I2S2_SDO/DFSDM1_CKIN2/UART4_CTS/SDMMC2_D1/OTG_HS_DP, 96 PD8/DFSDM1_CKIN3/SAI3_SCK_B/USART3_TX/SPDIFRX1_IN2/FMC_D13/FMC_DA13, 97 PD9/DFSDM1_DATIN3/SAI3_SD_B/USART3_RX/FDCAN2_RXFD_MODE/FMC_D14/FMC_DA14, 98 PD10/DFSDM1_CKOUT/SAI3_FS_B/USART3_CK/FDCAN2_TXFD_MODE/FMC_D15/FMC_DA15/LCD_B3, 99 PD11/LPTIM2_IN2/I2C4_SMBA/USART3_CTS/USART3_NSS/QUADSPI_BK1_IO0/SAI2_SD_A/FMC_A16, 100 PD12/LPTIM1_IN1/TIM4_CH1/LPTIM2_IN1/I2C4_SCL/USART3_RTS/USART3_DE/QUADSPI_BK1_IO1/SAI2_FS_A/FMC_A17, 101 PD13/LPTIM1_OUT/TIM4_CH2/I2C4_SDA/QUADSPI_BK1_IO3/SAI2_SCK_A/FMC_A18, 104 PD14/TIM4_CH3/SAI3_MCLK_B/UART8_CTS/FMC_D0/FMC_DA0, 105 PD15/TIM4_CH4/SAI3_MCLK_A/UART8_RTS/UART8_DE/FMC_D1/FMC_DA1, 115 PC6/HRTIM_CHA1/TIM3_CH1/TIM8_CH1/DFSDM1_CKIN3/I2S2_MCK/USART6_TX/SDMMC1_D0DIR/FMC_NWAIT/SDMMC2_D6/SDMMC1_D6/DCMI_D0/LCD_HSYNC, 116 PC7/TRGIO/HRTIM_CHA2/TIM3_CH2/TIM8_CH2/DFSDM1_DATIN3/I2S3_MCK/USART6_RX/SDMMC1_D123DIR/FMC_NE1/SDMMC2_D7/SWPMI_TX/SDMMC1_D7/DCMI_D1/LCD_G6, 117 PC8/TRACED1/HRTIM_CHB1/TIM3_CH3/TIM8_CH3/USART6_CK/UART5_RTS/UART5_DE/FMC_NE2/FMC_NCE/SWPMI_RX/SDMMC1_D0/DCMI_D2, 118 PC9/MCO2/TIM3_CH4/TIM8_CH4/I2C3_SDA/I2S_CKIN/UART5_CTS/QUADSPI_BK1_IO0/LCD_G3/SWPMI_SUSPEND/SDMMC1_D1/DCMI_D3/LCD_B2, 119 PA8/MCO1/TIM1_CH1/HRTIM_CHB2/TIM8_BKIN2/I2C3_SCL/USART1_CK/OTG_FS_SOF/UART7_RX/TIM8_BKIN2_COMP12/LCD_B3/LCD_R6, 120 PA9/TIM1_CH2/HRTIM_CHC1/LPUART1_TX/I2C3_SMBA/SPI2_SCK/I2S2_CK/USART1_TX/FDCAN1_RXFD_MODE/DCMI_D0/LCD_R5, 121 PA10/TIM1_CH3/HRTIM_CHC2/LPUART1_RX/USART1_RX/FDCAN1_TXFD_MODE/OTG_FS_ID/MDIOS_MDIO/LCD_B4/DCMI_D1/LCD_B1, 122 PA11/TIM1_CH4/HRTIM_CHD1/LPUART1_CTS/SPI2_NSS/I2S2_WS/UART4_RX/USART1_CTS/USART1_NSS/FDCAN1_RX/OTG_FS_DM/LCD_R4, 123 PA12/TIM1_ETR/HRTIM_CHD2/LPUART1_RTS/LPUART1_DE/SPI2_SCK/I2S2_CK/UART4_TX/USART1_RTS/USART1_DE/SAI2_FS_B/FDCAN1_TX/OTG_FS_DP/LCD_R5, 124 PA13/JTMS-SWDIO, 137 PA14/JTCK-SWCLK, 138 PA15/JTDI/TIM2_CH1/TIM2_ETR/HRTIM_FLT1/CEC/SPI1_NSS/I2S1_WS/SPI3_NSS/I2S3_WS/SPI6_NSS/UART4_RTS/UART4_DE/UART7_TX, 139 PC10/HRTIM_EEV1/DFSDM1_CKIN5/SPI3_SCK/I2S3_CK/USART3_TX/UART4_TX/QUADSPI_BK1_IO1/SDMMC1_D2/DCMI_D8/LCD_R2, 140 PC11/HRTIM_FLT2/DFSDM1_DATIN5/SPI3_MISO/I2S3_SDI/USART3_RX/UART4_RX/QUADSPI_BK2_NCS/SDMMC1_D3/DCMI_D4, 141 PC12/TRACED3/HRTIM_EEV2/SPI3_MOSI/I2S3_SDO/USART3_CK/UART5_TX/SDMMC1_CK/DCMI_D9, 142 PD0/DFSDM1_CKIN6/SAI3_SCK_A/UART4_RX/FDCAN1_RX/FMC_D2/FMC_DA2, 143 PD1/DFSDM1_DATIN6/SAI3_SD_A/UART4_TX/FDCAN1_TX/FMC_D3/FMC_DA3, 144 PD2/TRACED2/TIM3_ETR/UART5_RX/SDMMC1_CMD/DCMI_D11, 145 PD3/DFSDM1_CKOUT/SPI2_SCK/I2S2_CK/USART2_CTS/USART2_NSS/FMC_CLK/DCMI_D5/LCD_G7, 146 PD4/HRTIM_FLT3/SAI3_FS_A/USART2_RTS/USART2_DE/FDCAN1_RXFD_MODE/FMC_NOE, 147 PD5/HRTIM_EEV3/USART2_TX/FDCAN1_TXFD_MODE/FMC_NWE, 150 PD6/SAI1_D1/DFSDM1_CKIN4/DFSDM1_DATIN1/SPI3_MOSI/I2S3_SDO/SAI1_SD_A/USART2_RX/SAI4_SD_A/FDCAN2_RXFD_MODE/SAI4_D1/SDMMC2_CK/FMC_NWAIT/DCMI_D10/LCD_B2, 151 PD7/DFSDM1_DATIN4/SPI1_MOSI/I2S1_SDO/DFSDM1_CKIN1/USART2_CK/SPDIFRX1_IN1/SDMMC2_CMD/FMC_NE1, 161 PB3/JTDO/TRACESWO/TIM2_CH2/HRTIM_FLT4/SPI1_SCK/I2S1_CK/SPI3_SCK/I2S3_CK/SPI6_SCK/SDMMC2_D2/CRS_SYNC/UART7_RX, 162 PB4/NJTRST/TIM16_BKIN/TIM3_CH1/HRTIM_EEV6/SPI1_MISO/I2S1_SDI/SPI3_MISO/I2S3_SDI/SPI2_NSS/I2S2_WS/SPI6_MISO/SDMMC2_D3/UART7_TX, 163 PB5/TIM17_BKIN/TIM3_CH2/HRTIM_EEV7/I2C1_4_SMBA/SPI1_3_MOSI/I2S1_SDO/I2S3_SDO/SPI6_MOSI/FDCAN2_RX/OTG_HS_ULPI_D7/ETH_PPS_OUT/FMC_SDCKE1/DCMI_D10/UART5_RX, 164 PB6/TIM16_CH1N/TIM4_CH1/HRTIM_EEV8/I2C1_SCL/CEC/I2C4_SCL/USART1_TX/LPUART1_TX/FDCAN2_TX/QUADSPI_BK1_NCS/DFSDM1_DATIN5/FMC_SDNE1/DCMI_D5/UART5_TX, 165 PB7/TIM17_CH1N/TIM4_CH2/HRTIM_EEV9/I2C1_SDA/I2C4_SDA/USART1_RX/LPUART1_RX/FDCAN2_TXFD_MODE/DFSDM1_CKIN5/FMC_NL/DCMI_VSYNC, 167 PB8/TIM16_CH1/TIM4_CH3/DFSDM1_CKIN7/I2C1_SCL/I2C4_SCL/SDMMC1_CKIN/UART4_RX/FDCAN1_RX/SDMMC2_D4/ETH_MII_TXD3/SDMMC1_D4/DCMI_D6/LCD_B6, 168 PB9/TIM17_CH1/TIM4_CH4/DFSDM1_DATIN7/I2C1_SDA/SPI2_NSS/I2S2_WS/I2C4_SDA/SDMMC1_CDIR/UART4_TX/FDCAN1_TX/SDMMC2_D5/I2C4_SMBA/SDMMC1_D5/DCMI_D7/LCD_B7, 169 PE0/LPTIM1_ETR/TIM4_ETR/HRTIM_SCIN/LPTIM2_ETR/UART8_RX/FDCAN1_RXFD_MODE/SAI2_MCLK_A/FMC_NBL0/DCMI_D2, 170 PE1/LPTIM1_IN2/HRTIM_SCOUT/UART8_TX/FDCAN1_TXFD_MODE/FMC_NBL1/DCMI_D3
part B pins: 6 VBAT, 7 PI8, 11 PI9/UART4_RX/FDCAN1_RX/FMC_D30/LCD_VSYNC, 12 PI10/FDCAN1_RXFD_MODE/ETH_MII_RX_ER/FMC_D31/LCD_HSYNC, 13 PI11/LCD_G6/OTG_HS_ULPI_DIR, 14 VSS, 15 VDD, 16 PF0/I2C2_SDA/FMC_A0, 17 PF1/I2C2_SCL/FMC_A1, 18 PF2/I2C2_SMBA/FMC_A2, 19 PF3/FMC_A3, 20 PF4/FMC_A4, 21 PF5/FMC_A5, 22 VSS, 23 VDD, 24 PF6/TIM16_CH1/SPI5_NSS/SAI1_SD_B/UART7_RX/SAI4_SD_B/QUADSPI_BK1_IO3, 25 PF7/TIM17_CH1/SPI5_SCK/SAI1_MCLK_B/UART7_TX/SAI4_MCLK_B/QUADSPI_BK1_IO2, 26 PF8/TIM16_CH1N/SPI5_MISO/SAI1_SCK_B/UART7_RTS/UART7_DE/SAI4_SCK_B/TIM13_CH1/QUADSPI_BK1_IO0, 27 PF9/TIM17_CH1N/SPI5_MOSI/SAI1_FS_B/UART7_CTS/SAI4_FS_B/TIM14_CH1/QUADSPI_BK1_IO1, 28 PF10/TIM16_BKIN/SAI1_D3/QUADSPI_CLK/SAI4_D3/DCMI_D11/LCD_DE, 29 PH0-OSC_IN, 30 PH1-OSC_OUT, 31 NRST, 36 VDD, 37 VSSA, 38 VREF+, 39 VDDA, 43 PH2/LPTIM1_IN2/QUADSPI_BK2_IO0/SAI2_SCK_B/ETH_MII_CRS/FMC_SDCKE0/LCD_R0, 44 PH3/QUADSPI_BK2_IO1/SAI2_MCLK_B/ETH_MII_COL/FMC_SDNE0/LCD_R1, 45 PH4/I2C2_SCL/LCD_G5/OTG_HS_ULPI_NXT/LCD_G4, 46 PH5/I2C2_SDA/SPI5_NSS/FMC_SDNWE, 48 VSS, 49 VDD, 59 PF11/SPI5_MOSI/SAI2_SD_B/FMC_SDNRAS/DCMI_D12, 60 PF12/FMC_A6, 61 VSS, 62 VDD, 63 PF13/DFSDM1_DATIN6/I2C4_SMBA/FMC_A7, 64 PF14/DFSDM1_CKIN6/I2C4_SCL/FMC_A8, 65 PF15/I2C4_SDA/FMC_A9, 66 PG0/FMC_A10, 67 PG1/FMC_A11, 71 VSS, 72 VDD, 81 VCAP, 82 VDD, 83 PH6/TIM12_CH1/I2C2_SMBA/SPI5_SCK/ETH_MII_RXD2/FMC_SDNE1/DCMI_D8, 84 PH7/I2C3_SCL/SPI5_MISO/ETH_MII_RXD3/FMC_SDCKE1/DCMI_D9, 85 PH8/TIM5_ETR/I2C3_SDA/FMC_D16/DCMI_HSYNC/LCD_R2, 86 PH9/TIM12_CH2/I2C3_SMBA/FMC_D17/DCMI_D0/LCD_R3, 87 PH10/TIM5_CH1/I2C4_SMBA/FMC_D18/DCMI_D1/LCD_R4, 88 PH11/TIM5_CH2/I2C4_SCL/FMC_D19/DCMI_D2/LCD_R5, 89 PH12/TIM5_CH3/I2C4_SDA/FMC_D20/DCMI_D3/LCD_R6, 90 VSS, 91 VDD, 102 VSS, 103 VDD, 106 PG2/TIM8_BKIN/TIM8_BKIN_COMP12/FMC_A12, 107 PG3/TIM8_BKIN2/TIM8_BKIN2_COMP12/FMC_A13, 108 PG4/TIM1_BKIN2/TIM1_BKIN2_COMP12/FMC_A14/FMC_BA0, 109 PG5/TIM1_ETR/FMC_A15/FMC_BA1, 110 PG6/TIM17_BKIN/HRTIM_CHE1/QUADSPI_BK1_NCS/FMC_NE3/DCMI_D12/LCD_R7, 111 PG7/HRTIM_CHE2/SAI1_MCLK_A/USART6_CK/FMC_INT/DCMI_D13/LCD_CLK, 112 PG8/TIM8_ETR/SPI6_NSS/USART6_RTS/USART6_DE/SPDIFRX1_IN3/ETH_PPS_OUT/FMC_SDCLK/LCD_G7, 113 VSS, 114 VDD33USB, 125 VCAP, 126 VSS, 127 VDD, 128 PH13/TIM8_CH1N/UART4_TX/FDCAN1_TX/FMC_D21/LCD_G2, 129 PH14/TIM8_CH2N/UART4_RX/FDCAN1_RX/FMC_D22/DCMI_D4/LCD_G3, 130 PH15/TIM8_CH3N/FDCAN1_TXFD_MODE/FMC_D23/DCMI_D11/LCD_G4, 131 PI0/TIM5_CH4/SPI2_NSS/I2S2_WS/FDCAN1_RXFD_MODE/FMC_D24/DCMI_D13/LCD_G5, 132 PI1/TIM8_BKIN2/SPI2_SCK/I2S2_CK/TIM8_BKIN2_COMP12/FMC_D25/DCMI_D8/LCD_G6, 133 PI2/TIM8_CH4/SPI2_MISO/I2S2_SDI/FMC_D26/DCMI_D9/LCD_G7, 134 PI3/TIM8_ETR/SPI2_MOSI/I2S2_SDO/FMC_D27/DCMI_D10, 135 VSS, 136 VDD, 148 VSS, 149 VDD, 152 PG9/SPI1_MISO/I2S1_SDI/USART6_RX/SPDIFRX1_IN4/QUADSPI_BK2_IO2/SAI2_FS_B/FMC_NE2/FMC_NCE/DCMI_VSYNC, 153 PG10/HRTIM_FLT5/SPI1_NSS/I2S1_WS/LCD_G3/SAI2_SD_B/FMC_NE3/DCMI_D2/LCD_B2, 154 PG11/LPTIM1_IN2/HRTIM_EEV4/SPI1_SCK/I2S1_CK/SPDIFRX1_IN1/SDMMC2_D2/ETH_MII_TX_EN/ETH_RMII_TX_EN/DCMI_D3/LCD_B3, 155 PG12/LPTIM1_IN1/HRTIM_EEV5/SPI6_MISO/USART6_RTS/DE/SPDIFRX1_IN2/LCD_B4/ETH_MII_TXD1/ETH_RMII_TXD1/FMC_NE4/LCD_B1, 156 PG13/TRACED0/LPTIM1_OUT/HRTIM_EEV10/SPI6_SCK/USART6_CTS/USART6_NSS/ETH_MII_TXD0/ETH_RMII_TXD0/FMC_A24/LCD_R0, 157 PG14/TRACED1/LPTIM1_ETR/SPI6_MOSI/USART6_TX/QUADSPI_BK2_IO3/ETH_MII_TXD1/ETH_RMII_TXD1/FMC_A25/LCD_B0, 158 VSS, 159 VDD, 160 PG15/USART6_CTS/USART6_NSS/FMC_SDNCAS/DCMI_D13, 166 BOOT0, 171 PDR_ON, 172 VDD, 173 PI4/TIM8_BKIN/SAI2_MCLK_A/TIM8_BKIN_COMP12/FMC_NBL2/DCMI_D5/LCD_B4, 174 PI5/TIM8_CH1/SAI2_SCK_A/FMC_NBL3/DCMI_VSYNC/LCD_B5, 175 PI6/TIM8_CH2/SAI2_SD_A/FMC_D28/DCMI_D6/LCD_B6, 176 PI7/TIM8_CH3/SAI2_FS_A/FMC_D29/DCMI_D7/LCD_B7
part A text: all 140 i/o pins have event_out function; STM32H743IIT6   Part1
part B text: STM32H743IIT6   Part2

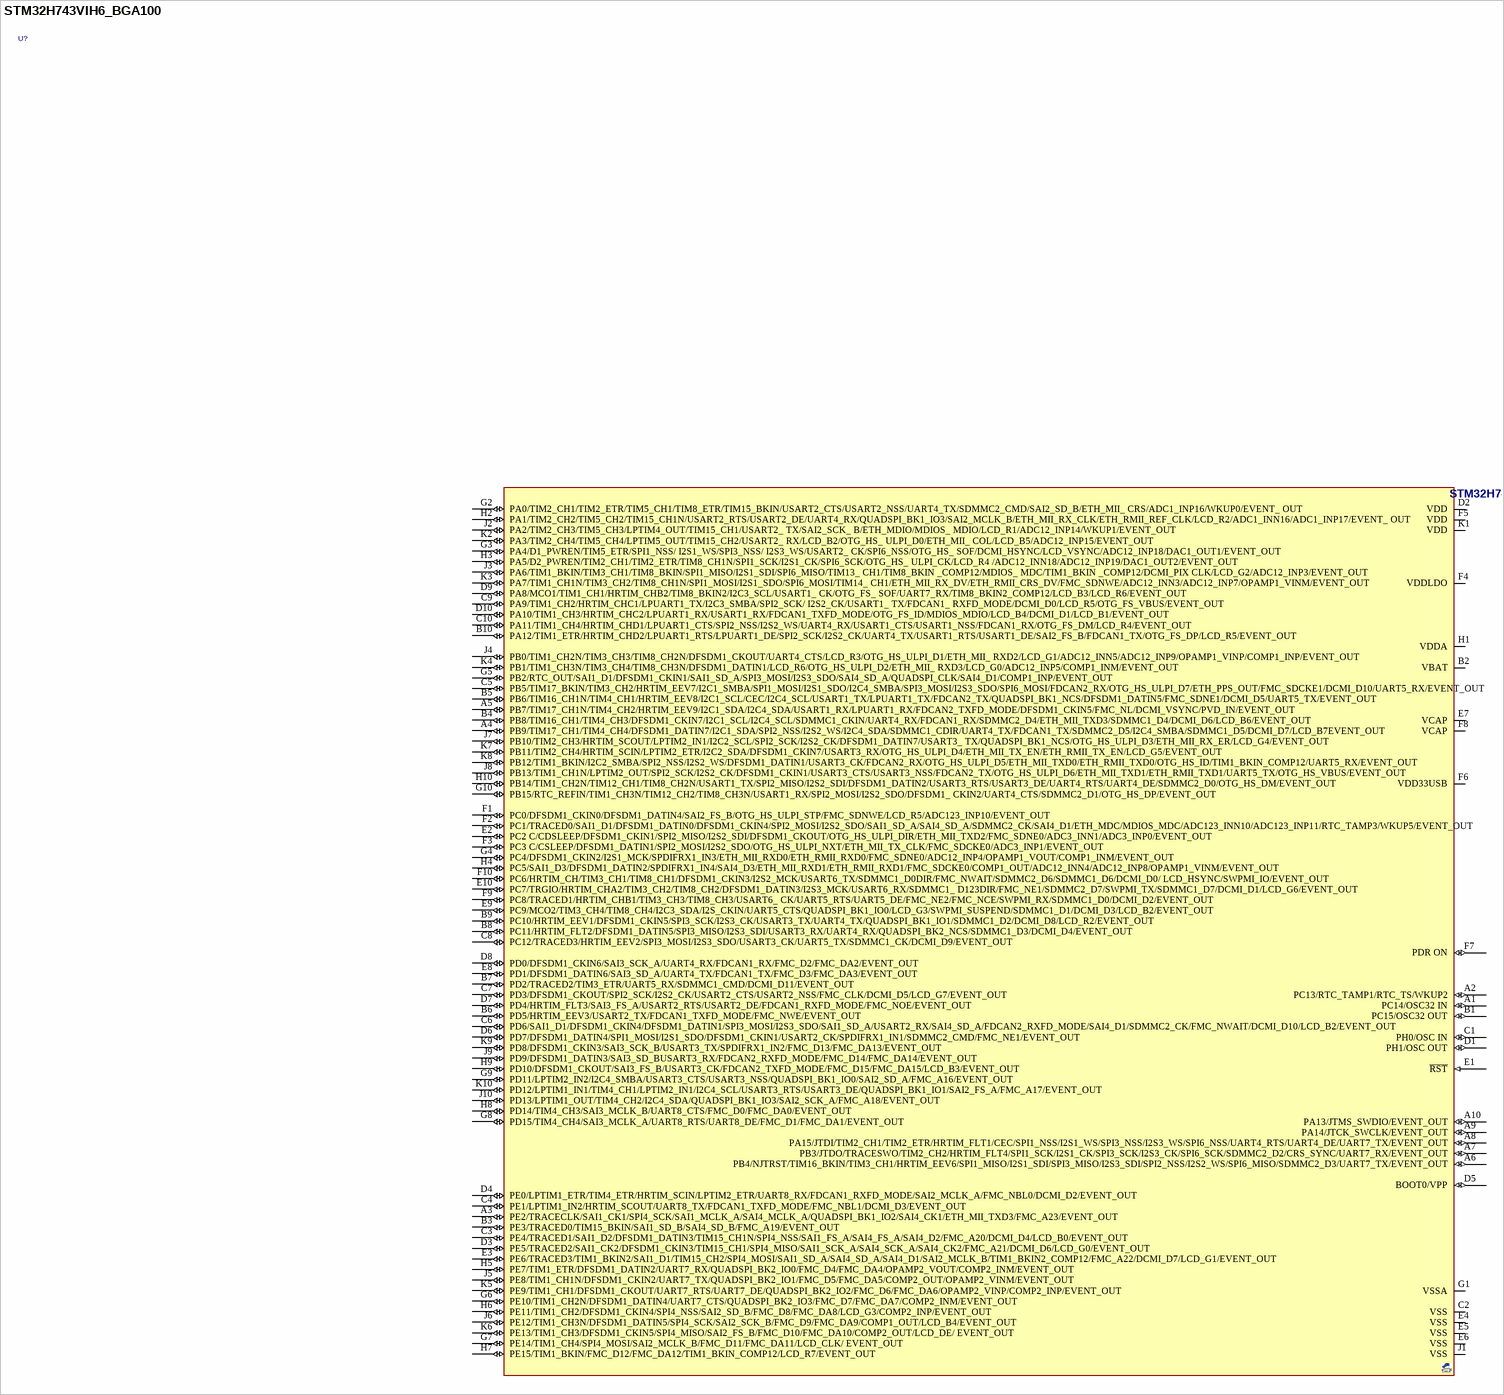
[diagram p23: symbol STM32H743VIH6_BGA100]